# Altium schematic symbol library Sajad_Altium_Library.SchLib: 340 symbols (part 2 of 4)
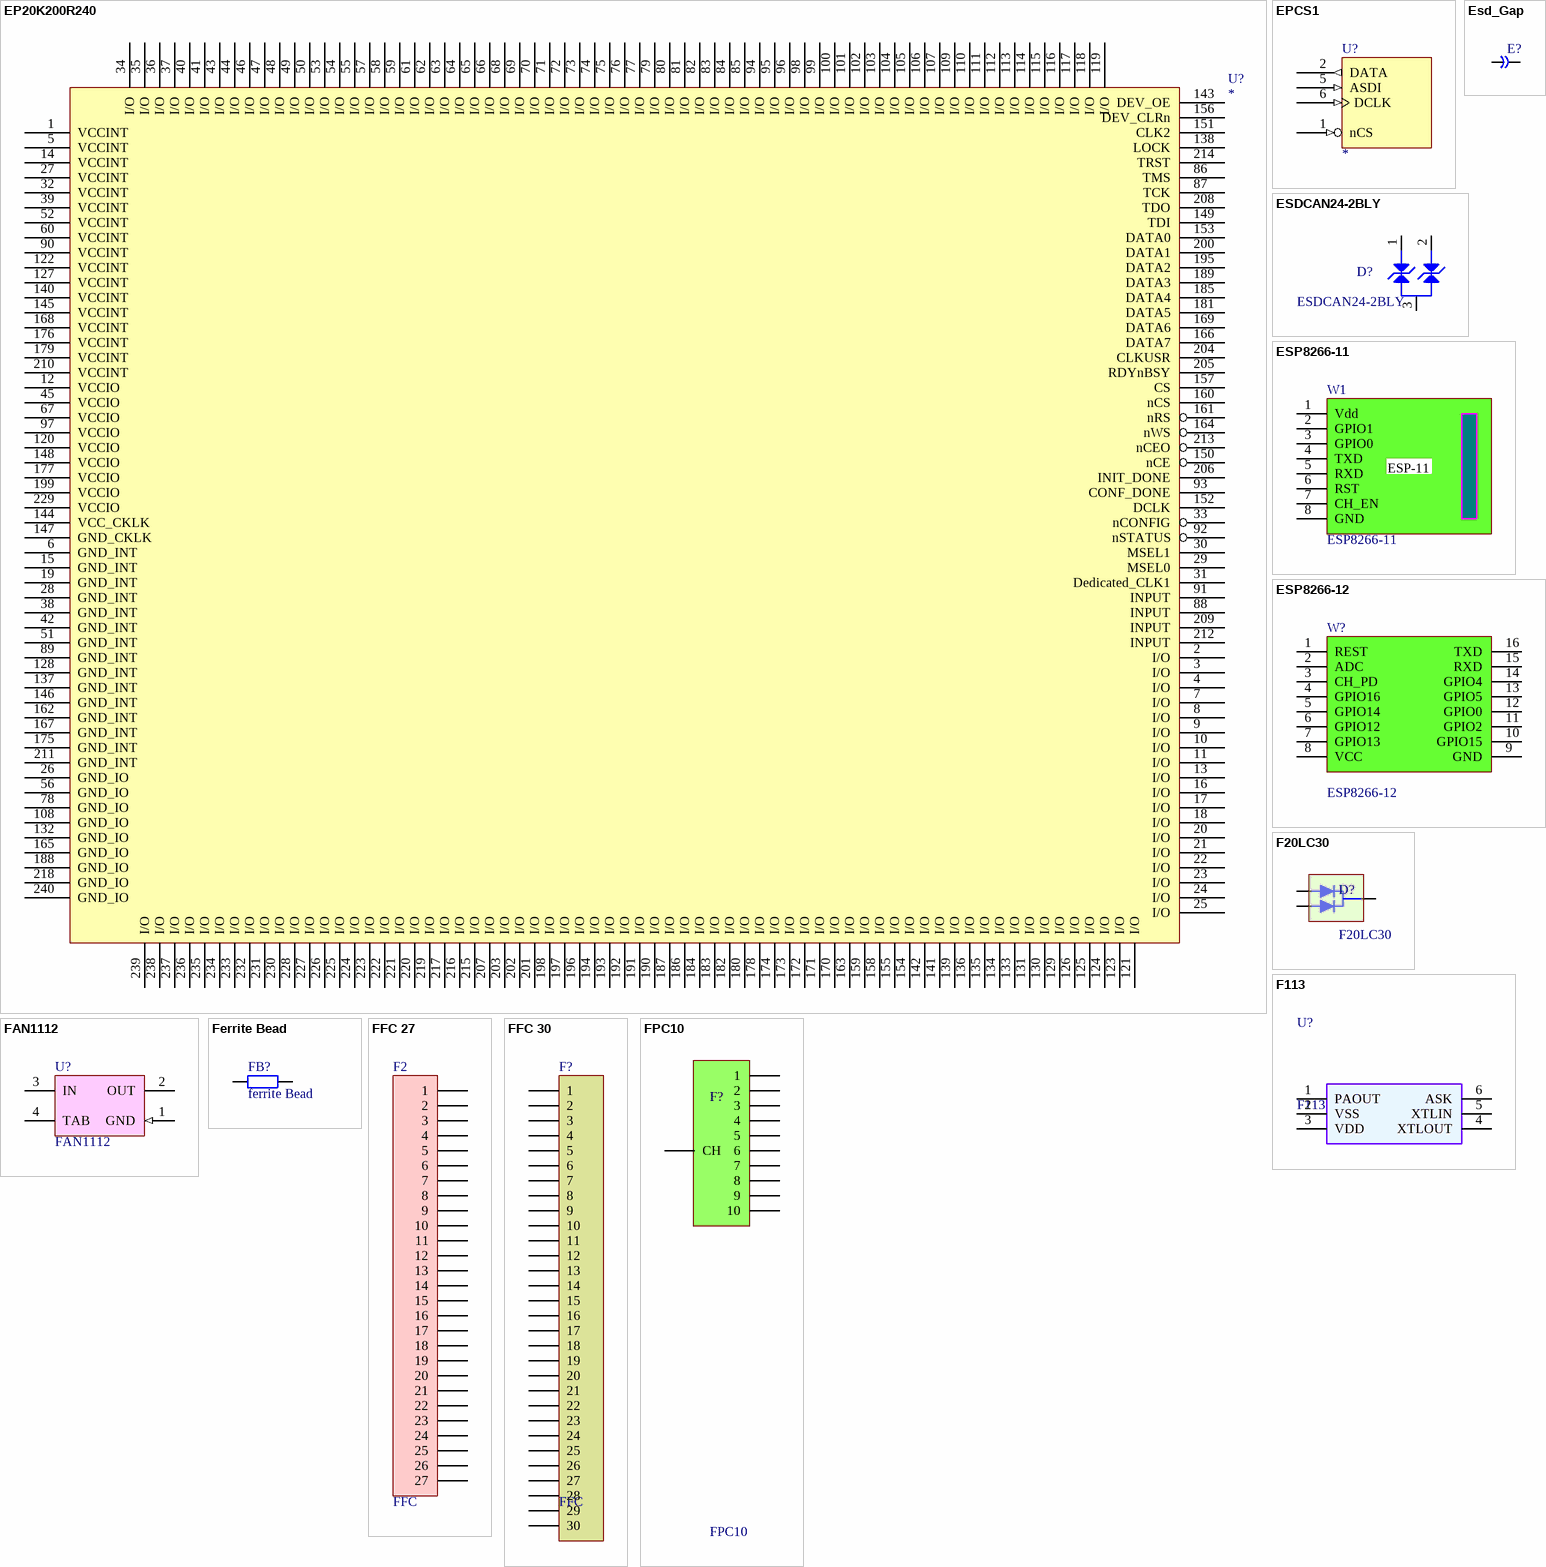
[diagram p18: symbols EP20K200R240 to FPC10]

## EP20K200R240
designator U?
Apex20K200 240-pin RQFP
footprint RQFP240
pins: 1 VCCINT, 2 I/O, 3 I/O, 4 I/O, 5 VCCINT, 6 GND_INT, 7 I/O, 8 I/O, 9 I/O, 10 I/O, 11 I/O, 12 VCCIO, 13 I/O, 14 VCCINT, 15 GND_INT, 16 I/O, 17 I/O, 18 I/O, 19 GND_INT, 20 I/O, 21 I/O, 22 I/O, 23 I/O, 24 I/O, 25 I/O, 26 GND_IO, 27 VCCINT, 28 GND_INT, 29 MSEL0, 30 MSEL1, 31 Dedicated_CLK1, 32 VCCINT, 33 nCONFIG, 34 I/O, 35 I/O, 36 I/O, 37 I/O, 38 GND_INT, 39 VCCINT, 40 I/O, 41 I/O, 42 GND_INT, 43 I/O, 44 I/O, 45 VCCIO, 46 I/O, 47 I/O, 48 I/O, 49 I/O, 50 I/O, 51 GND_INT, 52 VCCINT, 53 I/O, 54 I/O, 55 I/O, 56 GND_IO, 57 I/O, 58 I/O, 59 I/O, 60 VCCINT, 61 I/O, 62 I/O, 63 I/O, 64 I/O, 65 I/O, 66 I/O, 67 VCCIO, 68 I/O, 69 I/O, 70 I/O, 71 I/O, 72 I/O, 73 I/O, 74 I/O, 75 I/O, 76 I/O, 77 I/O, 78 GND_IO, 79 I/O, 80 I/O, 81 I/O, 82 I/O, 83 I/O, 84 I/O, 85 I/O, 86 TMS, 87 TCK, 88 INPUT, 89 GND_INT, 90 VCCINT, 91 INPUT, 92 nSTATUS, 93 CONF_DONE, 94 I/O, 95 I/O, 96 I/O, 97 VCCIO, 98 I/O, 99 I/O, 100 I/O, 101 I/O, 102 I/O, 103 I/O, 104 I/O, 105 I/O, 106 I/O, 107 I/O, 108 GND_IO, 109 I/O, 110 I/O, 111 I/O, 112 I/O, 113 I/O, 114 I/O, 115 I/O, 116 I/O, 117 I/O, 118 I/O, 119 I/O, 120 VCCIO, 121 I/O, 122 VCCINT, 123 I/O, 124 I/O, 125 I/O, 126 I/O, 127 VCCINT, 128 GND_INT, 129 I/O, 130 I/O, 131 I/O, 132 GND_IO, 133 I/O, 134 I/O, 135 I/O, 136 I/O, 137 GND_INT, 138 LOCK, 139 I/O, 140 VCCINT, 141 I/O, 142 I/O, 143 DEV_OE, 144 VCC_CKLK, 145 VCCINT, 146 GND_INT, 147 GND_CKLK, 148 VCCIO, 149 TDI, 150 nCE, 151 CLK2, 152 DCLK, 153 DATA0, 154 I/O, 155 I/O, 156 DEV_CLRn, 157 CS, 158 I/O, 159 I/O, 160 nCS, 161 nRS, 162 GND_INT, 163 I/O, 164 nWS, 165 GND_IO, 166 DATA7, 167 GND_INT, 168 VCCINT, 169 DATA6, 170 I/O, 171 I/O, 172 I/O, 173 I/O, 174 I/O, 175 GND_INT, 176 VCCINT, 177 VCCIO, 178 I/O, 179 VCCINT, 180 I/O, 181 DATA5, 182 I/O, 183 I/O, 184 I/O, 185 DATA4, 186 I/O, 187 I/O, 188 GND_IO, 189 DATA3, 190 I/O, 191 I/O, 192 I/O, 193 I/O, 194 I/O, 195 DATA2, 196 I/O, 197 I/O, 198 I/O, 199 VCCIO, 200 DATA1, 201 I/O, 202 I/O, 203 I/O, 204 CLKUSR, 205 RDYnBSY, 206 INIT_DONE, 207 I/O, 208 TDO, 209 INPUT, 210 VCCINT, 211 GND_INT, 212 INPUT, 213 nCEO, 214 TRST, 215 I/O, 216 I/O, 217 I/O, 218 GND_IO, 219 I/O, 220 I/O, 221 I/O, 222 I/O, 223 I/O, 224 I/O, 225 I/O, 226 I/O, 227 I/O, 228 I/O, 229 VCCIO, 230 I/O, 231 I/O, 232 I/O, 233 I/O, 234 I/O, 235 I/O, 236 I/O, 237 I/O, 238 I/O, 239 I/O, 240 GND_IO

## EPCS1
designator U?
Altera Serial Configuration Device
footprint SO-8
footprint SO-16
pins: 1 nCS (in), 2 DATA (out), 3 Vcc (power) hidden to Vcc, 4 GND (power) hidden to GND, 5 ASDI (in), 6 DCLK (in), 7 Vcc (power) hidden to Vcc, 8 Vcc (power) hidden to Vcc

## Esd_Gap
designator E?, comment Esd Gap  (value not drawn)
EsdGap; Published: 8-Jun-2000; LatestRevisionDate: 17-Jul-2002; LatestRevisionNote: Re-released for DXP Platform.; PackageReference: AXIAL-0.3; Publisher: Altium Limited
footprint Esd Gap (Esp Gap)
pins: 1, 2

## ESDCAN24-2BLY
designator D?
footprint SOT-23
footprint SOT23-213 (Footprint not found)
pins: 1, 2, 3

## ESP8266-11
designator W1
ESP8266 serial WIFI model ESP-11
footprint ESP8266-11
pins: 1 Vdd, 2 GPIO1, 3 GPIO0, 4 TXD, 5 RXD, 6 RST, 7 CH_EN, 8 GND
2 alternate drawings of the same symbol
text: ESP-11

## ESP8266-12
designator W?
ESP8266 serial WIFI model ESP-12
pins: 1 REST, 2 ADC, 3 CH_PD, 4 GPIO16, 5 GPIO14, 6 GPIO12, 7 GPIO13, 8 VCC, 9 GND, 10 GPIO15, 11 GPIO2, 12 GPIO0, 13 GPIO5, 14 GPIO4, 15 RXD, 16 TXD
2 alternate drawings of the same symbol

## F20LC30
designator D?
Supter fast Recovery Rectifier 300v 20A
footprint TO220
pins: 1 A1, 2 K, 3 A2

## F113
designator U?
F113_syn113 300-450mhz Ask Transmitter Chip_rf Ic
footprint PG-TSOP6 (High Precision Hall-Effect Switch with   Direction Detection)
pins: 1 PAOUT "Speed", 2 VSS, 3 VDD "Direction", 4 XTLOUT "Supply voltage", 5 XTLIN, 6 ASK

## FAN1112
designator U?
1A 1.2V Low Dropout Linear Regulator; PartNumber: LM317EMP; Manufacturer: National Semiconductor; CompType: LDO IC; PackageTopMarking: XYTT*N01A; PowerWise: N; Published: 4-Dec-2008; DatasheetVersion: Apr-2007; PackageVersion: revB, Apr-2003; PackageReference: MP04A; Publisher: Altium Limited; PackageDescription: Molded SOT-223, 6.50 x 3.56 x 1.6mm Body, 4 Lead, 2.3mm Pitch; RoHS: O; PinCount: 4; DigiKeyPartNumber: LM317EMPCT-ND; Code_JEDEC: TO-261-AA; Code_IPC: SOT223-4; ComponentLink1Description: LM317 Datasheet; ComponentLink1URL: http://www.national.com/ds/LM/LM317.pdf; ComponentLink2Description: LM317 Web Page; ComponentLink2URL: http://www.national.com/pf/LM/LM317.html; ComponentLink3Description: MP04A Package Page; ComponentLink3URL: http://www.national.com/packaging/folders/mp04a.html
footprint SOT223
pins: 1 GND (in), 2 OUT (power), 3 IN (power), 4 TAB (power)

## Ferrite Bead
designator FB?, comment ferrite Bead
Resistor; Published: 8-Jun-2000; LatestRevisionDate: 17-Jul-2002; LatestRevisionNote: Re-released for DXP Platform.; PackageReference: AXIAL-0.4; Publisher: Altium Limited; PackageDescription: Axial Device, Thru-Hole; 2 Leads; 0.4 in Pin Spacing
footprint AXIAL-0.4 - ferrite bead (Axial Device, Thru-Hole; 2 Leads; 0.4 in Pin Spacing)
pins: 1, 2

## FFC 27
designator F2, comment FFC
FFC connector 27pin
footprint ffc Connector 27
pins: 1, 2, 3, 4, 5, 6, 7, 8, 9, 10, 11, 12, 13, 14, 15, 16, 17, 18, 19, 20, 21, 22, 23, 24, 25, 26, 27

## FFC 30
designator F?, comment FFC
FFC connector 30 pin
footprint ffc Connector 30
pins: 1, 2, 3, 4, 5, 6, 7, 8, 9, 10, 11, 12, 13, 14, 15, 16, 17, 18, 19, 20, 21, 22, 23, 24, 25, 26, 27, 28, 29, 30

## FPC10
designator F?
FPC 10 smd
footprint FPC 10Pin (Chess Connector)
pins: 1, 2, 3, 4, 5, 6, 7, 8, 9, 10, CH

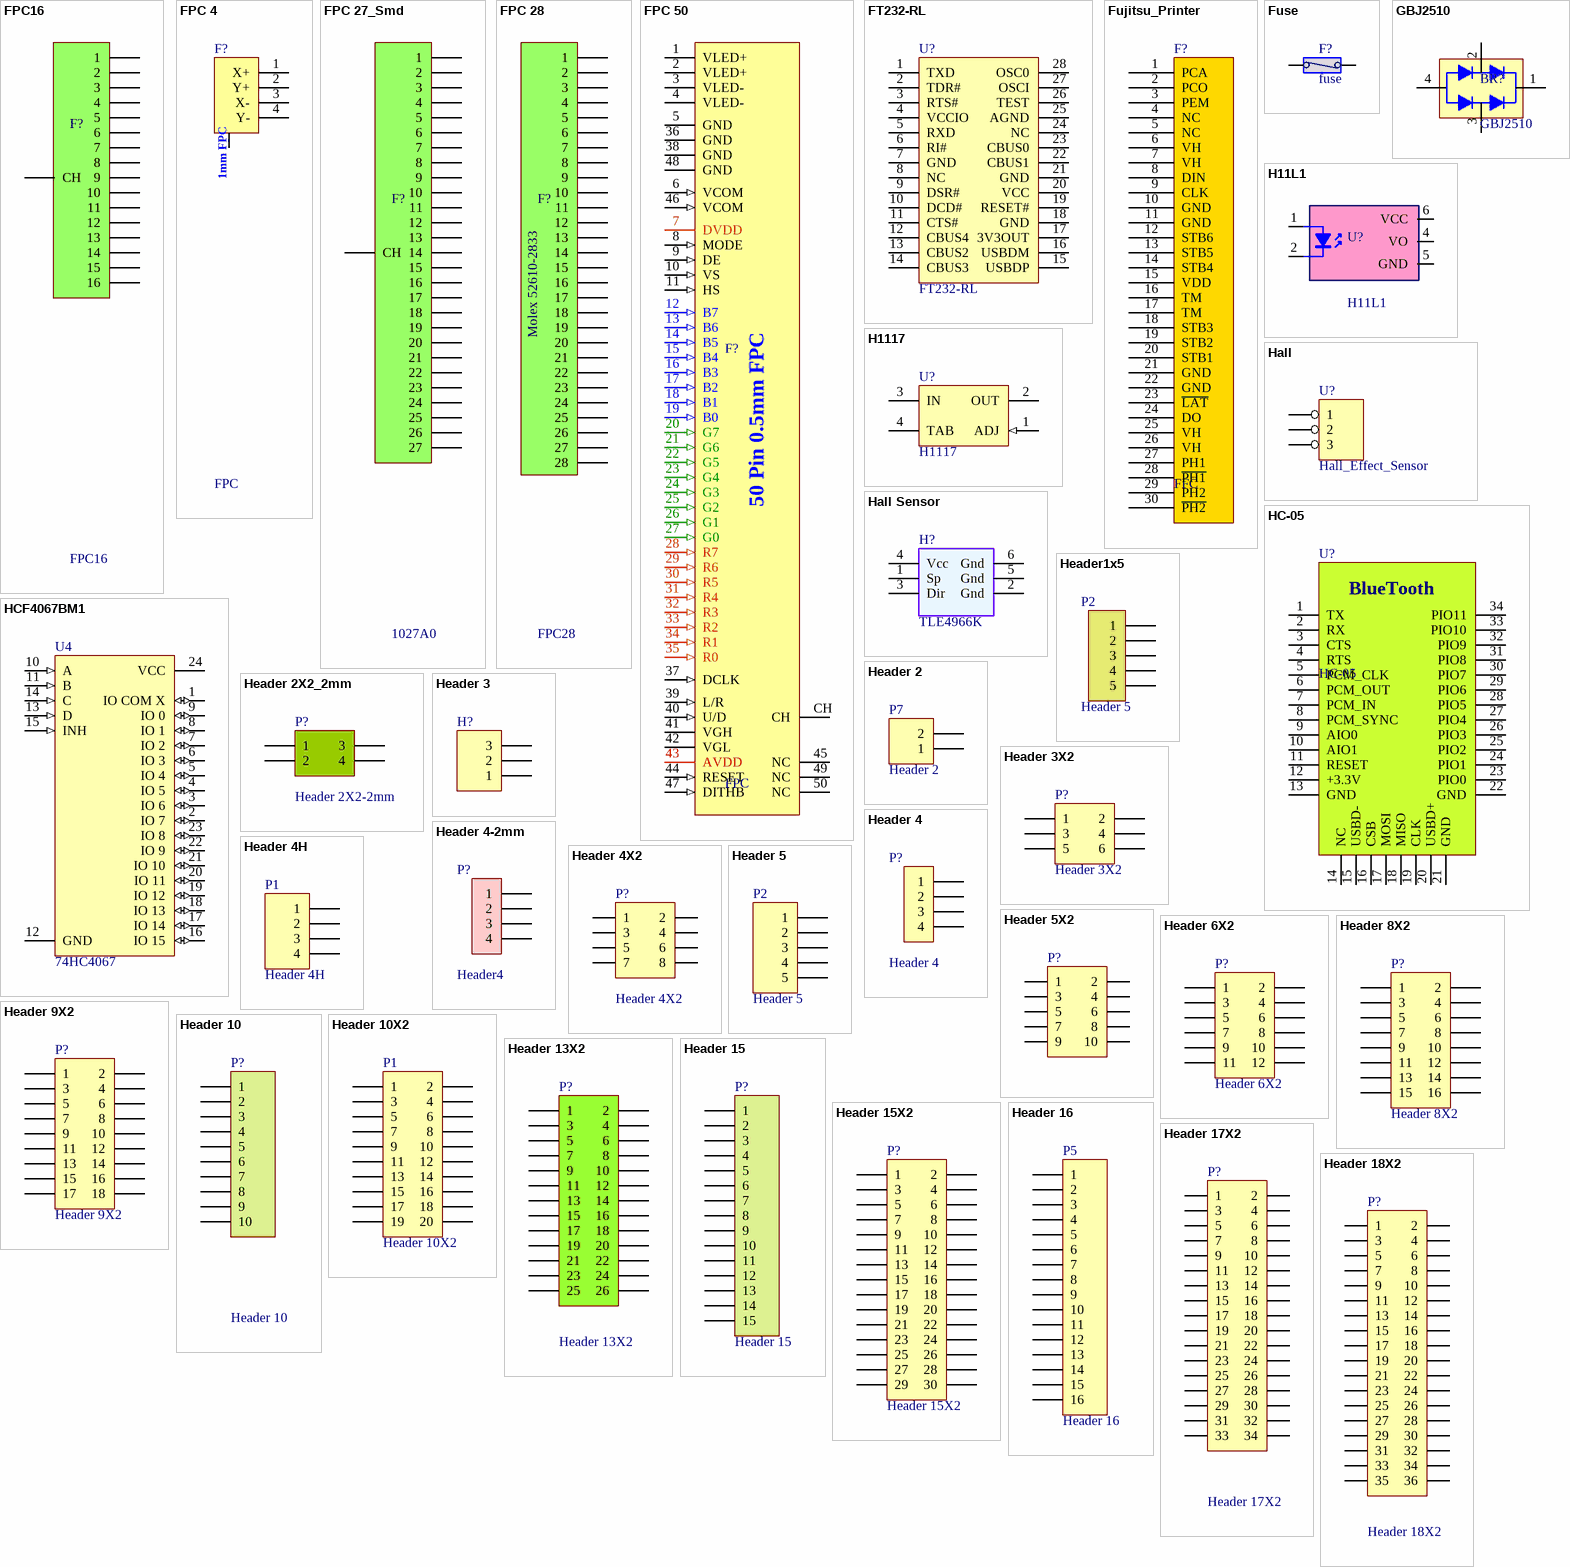
[diagram p7: symbols FPC16 to Header 18X2]

## FPC16
designator F?
FPC connector 16pin smd
footprint FPC 16pin 1mm (Chess Connector)
pins: 1, 2, 3, 4, 5, 6, 7, 8, 9, 10, 11, 12, 13, 14, 15, 16, CH

## FPC 4
designator F?, comment FPC
FPC 4 Pin 1mm
footprint FPC 4pin 1mm (Touch Connector)
pins: 1 X+, 2 Y+, 3 X-, 4 Y-, CH
text: 1mm FPC

## FPC 27_Smd
designator F?, comment 1027A0
FPC connector 27pin smd with Lock
footprint FPC 27pin 1mm (1027-A0 FPC1.0)
pins: 1, 2, 3, 4, 5, 6, 7, 8, 9, 10, 11, 12, 13, 14, 15, 16, 17, 18, 19, 20, 21, 22, 23, 24, 25, 26, 27, CH

## FPC 28
designator F?, comment FPC28
1.00mm Pitch Easy-On™ Type FFC/FPC Connector, Surface Mount, Vertical, ZIF Receptacle, 28 Circuits; Part Number: 52610-2833; Link: http://www.molex.com/molex/products/datasheet.jsp?part=active/0526102833_FFC_FPC_CONNECTORS.xml
footprint ffc Connector 28 (Molex Part Number: 52610-0533)
pins: 1, 2, 3, 4, 5, 6, 7, 8, 9, 10, 11, 12, 13, 14, 15, 16, 17, 18, 19, 20, 21, 22, 23, 24, 25, 26, 27, 28
text: Molex 52610-2833

## FPC 50
designator F?, comment FPC
FPC connector 50 pin
footprint FPC 50pin 0.5 mm (FPC 50pin .5 mm)
pins: 1 VLED+ (power), 2 VLED+ (power), 3 VLED- (power), 4 VLED- (power), 5 GND (power), 6 VCOM (in), 7 DVDD, 8 MODE  (in), 9 DE (in), 10 VS (in), 11 HS (in), 12 B7 (in), 13 B6 (in), 14 B5 (in), 15 B4 (in), 16 B3 (in), 17 B2 (in), 18 B1 (in), 19 B0 (in), 20 G7 (in), 21 G6 (in), 22 G5 (in), 23 G4 (in), 24 G3 (in), 25 G2 (in), 26 G1 (in), 27 G0 (in), 28 R7 (in), 29 R6 (in), 30 R5 (in), 31 R4 (in), 32 R3 (in), 33 R2 (in), 34 R1 (in), 35 R0 (in), 36 GND, 37 DCLK (in), 38 GND, 39 L/R (in), 40 U/D  (in), 41 VGH, 42 VGL, 43 AVDD, 44 RESET (in), 45 NC, 46 VCOM (in), 47 DITHB (in), 48 GND, 49 NC, 50 NC, CH
text: 50 Pin 0.5mm FPC

## FT232-RL
designator U?
footprint SSOP-28
pins: 1 TXD, 2 TDR#, 3 RTS#, 4 VCCIO, 5 RXD, 6 RI#, 7 GND, 8 NC, 9 DSR#, 10 DCD#, 11 CTS#, 12 CBUS4, 13 CBUS2, 14 CBUS3, 15 USBDP, 16 USBDM, 17 3V3OUT, 18 GND, 19 RESET#, 20 VCC, 21 GND, 22 CBUS1, 23 CBUS0, 24 NC, 25 AGND, 26 TEST, 27 OSCI, 28 OSC0

## Fujitsu_Printer
designator F?, comment FFC
FFC connector 30 pin
footprint ffc Connector 30
pins: 1 PCA, 2 PCO, 3 PEM, 4 NC, 5 NC, 6 VH, 7 VH, 8 DIN, 9 CLK, 10 GND, 11 GND, 12 STB6, 13 STB5, 14 STB4, 15 VDD, 16 TM, 17 TM, 18 STB3, 19 STB2, 20 STB1, 21 GND, 22 GND, 23 ~{LAT}, 24 DO, 25 VH, 26 VH, 27 PH1, 28 ~{PH1}, 29 PH2, 30 ~{PH2}

## Fuse
designator F?, comment fuse
footprint fuse
pins: 1, 2

## GBJ2510
designator BR?
25A GLASS PASSIVATED BRIDGE RECTIFIER
footprint Bridge_KBP204 (KBP204 Diode Bridge)
pins: 1, 2, 3, 4

## H11L1
designator U?
6  PIN DIP   S  CHMITT TRIGGER  P  H  OTOCOUPLE  R
footprint DIP6 (DIP; 6 Leads; Row Spacing 7.62 mm; Pitch 2.54 mm)
pins: 1 A "Anode", 2 K "Cathode", 4 VO "Collector", 5 GND "Emitter", 6 VCC "Emitter"

## H1117
designator U?
3.3 Volt Regulator; PartNumber: LM317EMP; Manufacturer: National Semiconductor; CompType: LDO IC; PackageTopMarking: XYTT*N01A; PowerWise: N; Published: 4-Dec-2008; DatasheetVersion: Apr-2007; PackageVersion: revB, Apr-2003; PackageReference: MP04A; Publisher: Altium Limited; PackageDescription: Molded SOT-223, 6.50 x 3.56 x 1.6mm Body, 4 Lead, 2.3mm Pitch; RoHS: O; PinCount: 4; DigiKeyPartNumber: LM317EMPCT-ND; Code_JEDEC: TO-261-AA; Code_IPC: SOT223-4; ComponentLink1Description: LM317 Datasheet; ComponentLink1URL: http://www.national.com/ds/LM/LM317.pdf; ComponentLink2Description: LM317 Web Page; ComponentLink2URL: http://www.national.com/pf/LM/LM317.html; ComponentLink3Description: MP04A Package Page; ComponentLink3URL: http://www.national.com/packaging/folders/mp04a.html
footprint SOT223
pins: 1 ADJ (in), 2 OUT (power), 3 IN (power), 4 TAB (power)

## Hall
designator U?, comment Hall_Effect_Sensor
footprint HALL_EFFECT_SENSOR
pins: 1, 2, 3

## Hall Sensor
designator H?, comment TLE4966K
High Precision Hall-Effect Switch with   Direction Detection
footprint PG-TSOP6 (High Precision Hall-Effect Switch with   Direction Detection)
pins: 1 Sp "Speed", 2 Gnd, 3 Dir "Direction", 4 Vcc "Supply voltage", 5 Gnd, 6 Gnd

## HC-05
designator U?
HC-05 Embedded Bluetooth Serial Module; Link: http://javanelec.com/productsDetails.aspx?id=23721; Price: 19000 Toman
footprint HC-05 (Bluetooth module footprint)
pins: 1 TX, 2 RX, 3 CTS, 4 RTS, 5 PCM_CLK, 6 PCM_OUT, 7 PCM_IN, 8 PCM_SYNC, 9 AIO0, 10 AIO1, 11 RESET, 12 +3.3V, 13 GND, 14 NC, 15 USBD-, 16 CSB, 17 MOSI, 18 MISO, 19 CLK, 20 USBD+, 21 GND, 22 GND, 23 PIO0, 24 PIO1, 25 PIO2, 26 PIO3, 27 PIO4, 28 PIO5, 29 PIO6, 30 PIO7, 31 PIO8, 32 PIO9, 33 PIO10, 34 PIO11
text: BlueTooth

## HCF4067BM1
designator U4, comment 74HC4067
Analog Multiplexer/Demultiplexer; Published: 8-Jun-2000; LatestRevisionDate: 13-Apr-2006; LatestRevisionNote: IPC-7351 Footprint Added.; DatasheetVersion: Sep-1988; PackageVersion: Oct-2001; PackageReference: SO24; Publisher: Altium Limited; PackageDescription: 24-Pin Plastic Small Outline Integrated Circuit 1.27 mm Pitch; ComponentLink1Description: Manufacturer Link; ComponentLink1URL: http://www.st.com/; ComponentLink2Description: Datasheet; ComponentLink2URL: http://www.st.com/stonline/products/literature/ds/2058/hcf4067.pdf
footprint SO24_N (SOIC, 24-Leads, Body 15.4x7.5mm, Pitch 1.27mm, IPC Medium Density)
footprint SO24_L (SOIC, 24-Leads, Body 15.4x7.5mm, Pitch 1.27mm, IPC High Density)
footprint SO24_M (SOIC, 24-Leads, Body 15.4x7.5mm, Pitch 1.27mm, IPC Low Density)
pins: 1 IO COM X (io), 2 IO 7 (io), 3 IO 6 (io), 4 IO 5 (io), 5 IO 4 (io), 6 IO 3 (io), 7 IO 2 (io), 8 IO 1 (io), 9 IO 0 (io), 10 A (in), 11 B (in), 12 GND (power), 13 D (in), 14 C (in), 15 INH (in), 16 IO 15 (io), 17 IO 14 (io), 18 IO 13 (io), 19 IO 12 (io), 20 IO 11 (io), 21 IO 10 (io), 22 IO 9 (io), 23 IO 8 (io), 24 VCC (power)

## Header1x5
designator P2, comment Header 5
Heder 1x5; LatestRevisionDate: 17-Jul-2002; LatestRevisionNote: Re-released for DXP Platform.; Publisher: Altium Limited
footprint Header1x5 (Header; 5 Position)
pins: 1, 2, 3, 4, 5

## Header 2
designator P7
Header, 2-Pin; LatestRevisionDate: 17-Jul-2002; LatestRevisionNote: Re-released for DXP Platform.; Publisher: Altium Limited
footprint HDR1X2 (Connector; Header; 2 Position)
pins: 1, 2

## Header 2X2_2mm
designator P?, comment Header 2X2-2mm
Header, 4-Pin, Dual row; LatestRevisionDate: 17-Jul-2002; LatestRevisionNote: Re-released for DXP Platform.; Publisher: Altium Limited
footprint Header2x2 -2mm (Header; 4 Position)
pins: 1, 2, 3, 4

## Header 3
designator H?  (value not drawn)
Header, 3-Pin; LatestRevisionDate: 17-Jul-2002; LatestRevisionNote: Re-released for DXP Platform.; Publisher: Altium Limited
footprint HDR1X3 (Connector; Header; 3 Position)
signal-integrity model Connector
pins: 1, 2, 3

## Header 3X2
designator P?
Header, 3-Pin, Dual row; LatestRevisionDate: 17-Jul-2002; LatestRevisionNote: Re-released for DXP Platform.; Publisher: Altium Limited
footprint HDR2X3 (Connector; Header; 3x2 Position)
pins: 1, 2, 3, 4, 5, 6

## Header 4
designator P?
Header, 4-Pin; LatestRevisionDate: 17-Jul-2002; LatestRevisionNote: Re-released for DXP Platform.; Publisher: Altium Limited
footprint Header1x4 (Header; 4 Position)
pins: 1, 2, 3, 4

## Header 4-2mm
designator P?, comment Header4
Header, 4-Pin 2mm; LatestRevisionDate: 17-Jul-2002; LatestRevisionNote: Re-released for DXP Platform.; Publisher: Altium Limited
footprint Header1x4 -2mm (Header; 4 Position)
pins: 1, 2, 3, 4

## Header 4H
designator P1
Header, 4-Pin, Right Angle; LatestRevisionDate: 17-Jul-2002; LatestRevisionNote: Re-released for DXP Platform.; Publisher: Altium Limited
footprint HDR1X4
pins: 1, 2, 3, 4

## Header 4X2
designator P?
Header, 4-Pin, Dual row; LatestRevisionDate: 17-Jul-2002; LatestRevisionNote: Re-released for DXP Platform.; Publisher: Altium Limited
footprint Header2x4
footprint Header2x4Big
pins: 1, 2, 3, 4, 5, 6, 7, 8

## Header 5
designator P2
Header, 5-Pin; LatestRevisionDate: 17-Jul-2002; LatestRevisionNote: Re-released for DXP Platform.; Publisher: Altium Limited
footprint Header1x5 (Header; 5 Position)
signal-integrity model Connector
pins: 1, 2, 3, 4, 5

## Header 5X2
designator P?
Header, 5-Pin, Dual row; LatestRevisionDate: 17-Jul-2002; LatestRevisionNote: Re-released for DXP Platform.; Publisher: Altium Limited
footprint Header2x5
pins: 1, 2, 3, 4, 5, 6, 7, 8, 9, 10

## Header 6X2
designator P?
Header, 6-Pin, Dual row; LatestRevisionDate: 17-Jul-2002; LatestRevisionNote: Re-released for DXP Platform.; Publisher: Altium Limited
footprint HDR2X6 (Connector; Header; 6x2 Position)
pins: 1, 2, 3, 4, 5, 6, 7, 8, 9, 10, 11, 12

## Header 8X2
designator P?
Header, 8-Pin, Dual row; LatestRevisionDate: 17-Jul-2002; LatestRevisionNote: Re-released for DXP Platform.; Publisher: Altium Limited
footprint IDC2.54-V16D (Connector; IDC, Low Profile Male Header, Thru-Hole; 16 Position; Vertical; Pitch 2.54 mm; Body 27.94 x 9.2 x 9.45 mm (LxWxH))
footprint IDC2.54-V16D_Lock (Connector; IDC, Low Profile Male Header, Thru-Hole; 16 Position; Vertical; Pitch 2.54 mm; Body 27.94 x 9.2 x 9.45 mm (LxWxH))
pins: 1, 2, 3, 4, 5, 6, 7, 8, 9, 10, 11, 12, 13, 14, 15, 16

## Header 9X2
designator P?
Header, 9-Pin, Dual row; LatestRevisionDate: 17-Jul-2002; LatestRevisionNote: Re-released for DXP Platform.; Publisher: Altium Limited
footprint HDR2X9 (Connector; Header; 9x2 Position)
signal-integrity model Connector
pins: 1, 2, 3, 4, 5, 6, 7, 8, 9, 10, 11, 12, 13, 14, 15, 16, 17, 18

## Header 10
designator P?
Header, 10-Pin; LatestRevisionDate: 17-Jul-2002; LatestRevisionNote: Re-released for DXP Platform.; Publisher: Altium Limited
footprint HDR 1X10 (Connector; Header; 10 Position)
pins: 1, 2, 3, 4, 5, 6, 7, 8, 9, 10

## Header 10X2
designator P1
Header, 10-Pin, Dual row; LatestRevisionDate: 17-Jul-2002; LatestRevisionNote: Re-released for DXP Platform.; Publisher: Altium Limited
footprint HDR2X10 (Connector; Header; 10x2 Position)
footprint IDC2.54-H20C (Connector; IDC, Low Profile Male Header, Thru-Hole; 20 Position; Right Angle; Pitch 2.54 mm; Body 33.02 x 8.9 x 9.2 mm (LxWxH))
footprint IDC2.54-V20D (Connector; IDC, Low Profile Male Header, Thru-Hole; 20 Position; Vertical; Pitch 2.54 mm; Body 33.02 x 9.2 x 9.45 mm (LxWxH))
footprint IDC2.54-V20D_Lock (Connector; IDC, Low Profile Male Header, Thru-Hole; 20 Position; Vertical; Pitch 2.54 mm; Body 33.02 x 9.2 x 9.45 mm (LxWxH))
pins: 1, 2, 3, 4, 5, 6, 7, 8, 9, 10, 11, 12, 13, 14, 15, 16, 17, 18, 19, 20

## Header 13X2
designator P?
Header, 13-Pin, Dual row
footprint IDC2.54-V26D
pins: 1, 2, 3, 4, 5, 6, 7, 8, 9, 10, 11, 12, 13, 14, 15, 16, 17, 18, 19, 20, 21, 22, 23, 24, 25, 26

## Header 15
designator P?
Header, 15-Pin; LatestRevisionDate: 17-Jul-2002; LatestRevisionNote: Re-released for DXP Platform.; Publisher: Altium Limited
footprint HDR_1X15 (Connector; Header; 15 Position)
pins: 1, 2, 3, 4, 5, 6, 7, 8, 9, 10, 11, 12, 13, 14, 15

## Header 15X2
designator P?
Header, 15-Pin, Dual row; LatestRevisionDate: 17-Jul-2002; LatestRevisionNote: Re-released for DXP Platform.; Publisher: Altium Limited
footprint IDC2.54-V30D
pins: 1, 2, 3, 4, 5, 6, 7, 8, 9, 10, 11, 12, 13, 14, 15, 16, 17, 18, 19, 20, 21, 22, 23, 24, 25, 26, 27, 28, 29, 30

## Header 16
designator P5
Header, 16-Pin; LatestRevisionDate: 17-Jul-2002; LatestRevisionNote: Re-released for DXP Platform.; Publisher: Altium Limited
footprint HDR_1X16 (Connector; Header; 16 Position)
pins: 1, 2, 3, 4, 5, 6, 7, 8, 9, 10, 11, 12, 13, 14, 15, 16

## Header 17X2
designator P?
Header, 17-Pin, Dual row; LatestRevisionDate: 17-Jul-2002; LatestRevisionNote: Re-released for DXP Platform.; Publisher: Altium Limited
footprint IDC2.54-V34D (Connector; IDC, Low Profile Male Header, Thru-Hole; 34 Position; Vertical; Pitch 2.54 mm; Body 50.80 x 9.2 x 9.45 mm (LxWxH))
footprint 3_2InchTft
pins: 1, 2, 3, 4, 5, 6, 7, 8, 9, 10, 11, 12, 13, 14, 15, 16, 17, 18, 19, 20, 21, 22, 23, 24, 25, 26, 27, 28, 29, 30, 31, 32, 33, 34

## Header 18X2
designator P?
Header, 18-Pin, Dual row; LatestRevisionDate: 17-Jul-2002; LatestRevisionNote: Re-released for DXP Platform.; Publisher: Altium Limited
footprint IDC2.54-V36D (Connector; IDC, Low Profile Male Header, Thru-Hole; 40 Position; Vertical; Pitch 2.54 mm;)
pins: 1, 2, 3, 4, 5, 6, 7, 8, 9, 10, 11, 12, 13, 14, 15, 16, 17, 18, 19, 20, 21, 22, 23, 24, 25, 26, 27, 28, 29, 30, 31, 32, 33, 34, 35, 36

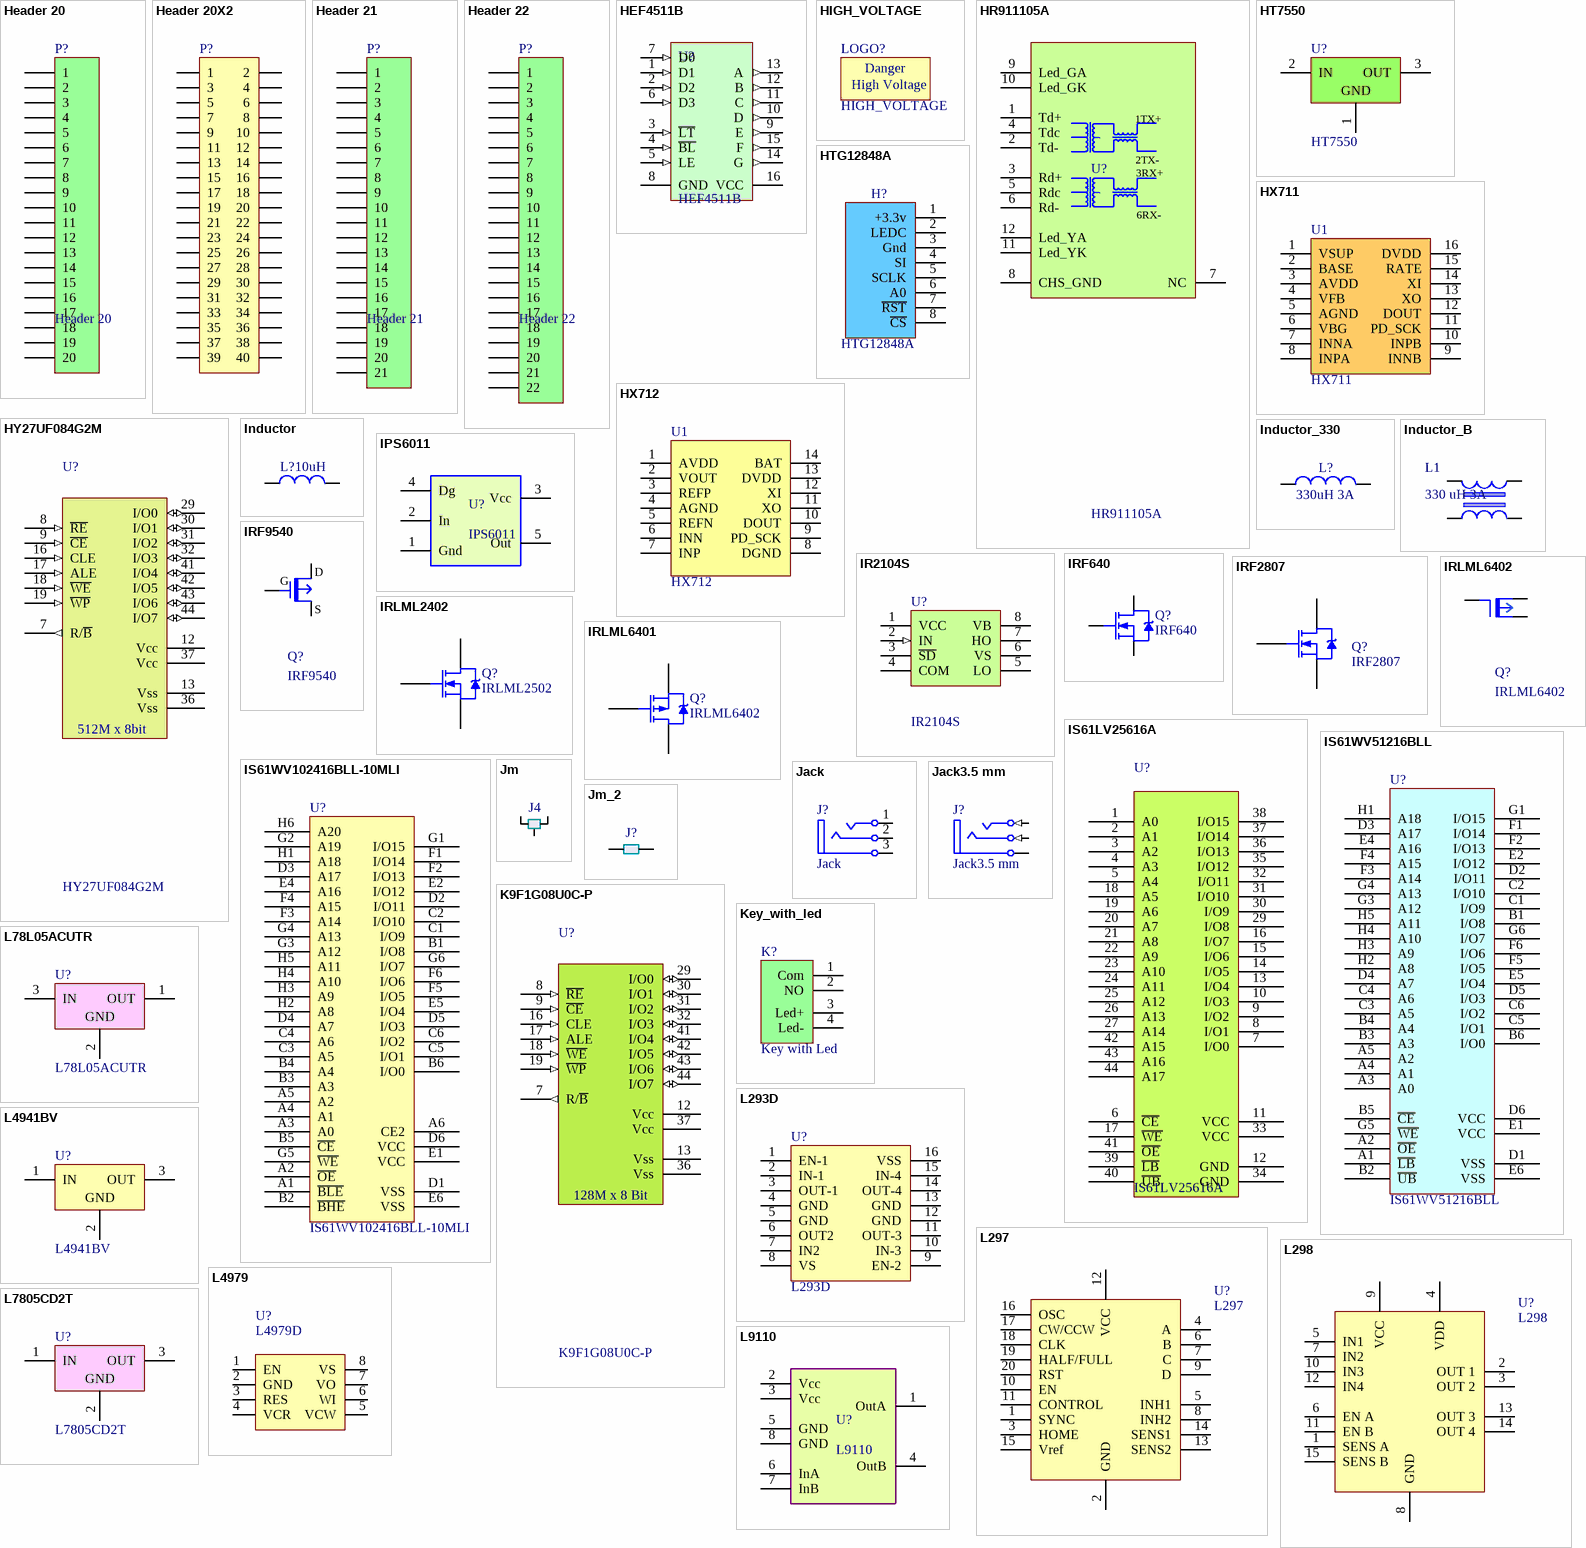
[diagram p8: symbols Header 20 to L9110]

## Header 20
designator P?
Header, 20-Pin; LatestRevisionDate: 17-Jul-2002; LatestRevisionNote: Re-released for DXP Platform.; Publisher: Altium Limited
footprint HDR_1X20 (Connector; Header; 20 Position)
pins: 1, 2, 3, 4, 5, 6, 7, 8, 9, 10, 11, 12, 13, 14, 15, 16, 17, 18, 19, 20

## Header 20X2
designator P?
Header, 20-Pin, Dual row; LatestRevisionDate: 17-Jul-2002; LatestRevisionNote: Re-released for DXP Platform.; Publisher: Altium Limited
footprint Header2x20
footprint IDC2.54-V40D (Connector; IDC, Low Profile Male Header, Thru-Hole; 40 Position; Vertical; Pitch 2.54 mm; Body 58.42 x 9.2 x 9.45 mm (LxWxH))
pins: 1, 2, 3, 4, 5, 6, 7, 8, 9, 10, 11, 12, 13, 14, 15, 16, 17, 18, 19, 20, 21, 22, 23, 24, 25, 26, 27, 28, 29, 30, 31, 32, 33, 34, 35, 36, 37, 38, 39, 40

## Header 21
designator P?
Header, 21-Pin; LatestRevisionDate: 17-Jul-2002; LatestRevisionNote: Re-released for DXP Platform.; Publisher: Altium Limited
footprint HDR_1X21 (Connector; Header; 21 Position)
pins: 1, 2, 3, 4, 5, 6, 7, 8, 9, 10, 11, 12, 13, 14, 15, 16, 17, 18, 19, 20, 21

## Header 22
designator P?
Header, 22-Pin; LatestRevisionDate: 17-Jul-2002; LatestRevisionNote: Re-released for DXP Platform.; Publisher: Altium Limited
footprint HDR_1X22 (Connector; Header; 22 Position)
pins: 1, 2, 3, 4, 5, 6, 7, 8, 9, 10, 11, 12, 13, 14, 15, 16, 17, 18, 19, 20, 21, 22

## HEF4511B
designator U?
BCD to 7-segment latch/decoder/driver
footprint SO16
pins: 1 D1 (in), 2 D2 (in), 3 ~{LT} (in), 4 ~{BL} (in), 5 LE (in), 6 D3 (in), 7 D0 (in), 8 GND (power), 9 E (out), 10 D (out), 11 C (out), 12 B (out), 13 A (out), 14 G (out), 15 F (out), 16 VCC

## HIGH_VOLTAGE
designator LOGO?
footprint HIGH VOLTAGE
text: Danger; High Voltage

## HR911105A
designator U?
Rj45 Connector with Filter & LED
footprint HR911105A (Rj45 Connector with Filter & LED)
pins: 1 Td+, 2 Td-, 3 Rd+, 4 Tdc, 5 Rdc, 6 Rd-, 7 NC, 8 CHS_GND, 9 Led_GA, 10 Led_GK, 11 Led_YK, 12 Led_YA
text: 1TX+; 2TX-; 3RX+ /; 6RX- /

## HT7550
designator U?
5 volt 100mA Low Power LDO Voltage Regulator; Note: Heatsink surface is connected to Pin 2; DatasheetVersion: 1997; PackageVersion: 1997; PackageReference: 221A-06; Publisher: Altium Limited; PackageDescription: TO, Thru-Hole, Vertical, Heatsink Mounted; 3 In-Line Leads; Pitch 2.54 mm; Code_JEDEC: TO-262-AA; ComponentLink1Description: Manufacturer Link; ComponentLink1URL: http://www.onsemi.com/site/products/taxonomy/0,4438,503,00.html; ComponentLink2Description: Datasheet; ComponentLink2URL: http://www.onsemi.com/pub/Collateral/MC7800-D.PDF
footprint SOT89M (SOT89, 3-Leads, Body 4.5x2.4 mm, Pitch 1.5mm, Lead Span 4.1mm, IPC Low Density)
pins: 1 GND (power), 2 IN (power), 3 OUT (power)

## HTG12848A
designator H?
footprint HTG12848A (Glcd HTG12848A)
pins: 1 +3.3v, 2 LEDC, 3 Gnd, 4 SI, 5 SCLK, 6 A0, 7 ~{RST}, 8 ~{CS}

## HX711
designator U1
24-Bit 2channal Analog-to-Digital Converter (ADC) for Weigh Scales
footprint SO16
pins: 1 VSUP (power), 2 BASE (power), 3 AVDD, 4 VFB (power), 5 AGND, 6 VBG, 7 INNA, 8 INPA (power), 9 INNB, 10 INPB (power), 11 PD_SCK (power), 12 DOUT (power), 13 XO (power), 14 XI (power), 15 RATE (power), 16 DVDD (power)

## HX712
designator U1
24-Bit Analog-to-Digital Converter (ADC) with Load-cell Power Supply
footprint SO14_M (SOIC, 14-Leads, Body 8.7x3.9mm, Pitch 1.27mm, IPC Low Density)
pins: 1 AVDD (power), 2 VOUT (power), 3 REFP, 4 AGND (power), 5 REFN, 6 INN, 7 INP, 8 DGND (power), 9 PD_SCK, 10 DOUT (power), 11 XO (power), 12 XI (power), 13 DVDD (power), 14 BAT (power)

## HY27UF084G2M
designator U?
4Gbit (512Mx8bit)NAND Flash
footprint TSOP48 (Shrink Small Outline, Plastic, Thin; 48 Leads; Body Width 18.4 mm; Pitch 0.5 mm)
pins: 7 R/~{B} (out), 8 ~{RE} (in), 9 ~{CE} (in), 12 Vcc, 13 Vss, 16 CLE (in), 17 ALE (in), 18 ~{W}~{E} (in), 19 ~{W}~{P} (in), 29 I/O0 (io), 30 I/O1 (io), 31 I/O2 (io), 32 I/O3 (io), 36 Vss, 37 Vcc, 41 I/O4 (io), 42 I/O5 (io), 43 I/O6 (io), 44 I/O7 (io)
text: 512M x 8bit

## Inductor
designator L?, comment 10uH
Inductor; Code_IEC: 1005; Published: 8-Jun-2000; LatestRevisionDate: 17-Jul-2002; LatestRevisionNote: Re-released for DXP Platform.; PackageReference: 0402-A; Publisher: Altium Limited; Code_JEITA: 0402; Value: 10uH
footprint 0805
footprint 0805 - big
footprint 0603
pins: 1, 2

## Inductor_330
designator L?, comment 330uH 3A
Inductor; Code_IEC: 1005; Published: 8-Jun-2000; LatestRevisionDate: 17-Jul-2002; LatestRevisionNote: Re-released for DXP Platform.; PackageReference: 0402-A; Publisher: Altium Limited; Code_JEITA: 0402; Value: 330uH
footprint CAPPR5-5X5 (Capacitor, Electrolytic, Radial; Body 5 x 5 mm (Dia.xH typ); Pin Spacing 5 mm (typ))
footprint SELF SMD/12x12x8mm
pins: 1, 2

## Inductor_B
designator L1, comment 330 uH 3A
Inductor; Code_IEC: 1005; Published: 8-Jun-2000; LatestRevisionDate: 17-Jul-2002; LatestRevisionNote: Re-released for DXP Platform.; PackageReference: 0402-A; Publisher: Altium Limited; Code_JEITA: 0402
pins: 1, 2, 3, 4

## IPS6011
designator U?
INTELLIGENT POWER HIGH SIDE SWITCH
footprint D2-PAK (D2-PAK; 5 Leads (1 Cropped); Body 15.3 (inc. leads) x 10.4 mm (LxW max))
pins: 1 Gnd, 2 In, 3 Vcc, 4 Dg, 5 Out

## IR2104S
designator U?
HALF-BRIDGE DRIVER
footprint so8
pins: 1 VCC (power), 2 IN (in), 3 ~{SD} (power), 4 COM, 5 LO, 6 VS (power), 7 HO, 8 VB (power)

## IRF640
designator Q?
HEXFET N-Channel Power MOSFET; Note: Pin 2 is electrically connected to pin 4.; Published: 8-Jun-2000; LatestRevisionDate: 17-Jul-2002; LatestRevisionNote: Re-released for DXP Platform.; DatasheetVersion: PD-9.374G; PackageVersion: Feb-1997; PackageReference: TO-220AB; Publisher: Altium Limited; PackageDescription: TO, Thru-Hole, Vertical, Heatsink Mounted; 3 In-Line Leads; Pitch 2.54 mm; ComponentLink1Description: Manufacturer Link; ComponentLink1URL: http://www.irf.com/; ComponentLink2Description: Datasheet; ComponentLink2URL: http://www.irf.com/product-info/datasheets/data/irf640.pdf
simulation model IRF640 (SUBCKT)
footprint TO220
pins: 1 G, 2 D, 3 S

## IRF2807
designator Q?
HEXFET Power MOSFET 82A VDSS= 75V; Note: Pin 2 is electrically connected to pin 4.; Sim Note: Thermal Model provided is not called on from main Subckt.; Published: 8-Jun-2000; LatestRevisionDate: 17-Jul-2002; LatestRevisionNote: Re-released for DXP Platform.; DatasheetVersion: May-1998; PackageVersion: Feb-1997; PackageReference: TO-220AB; Publisher: Altium Limited; PackageDescription: TO, Thru-Hole, Vertical, Heatsink Mounted; 3 In-Line Leads; Pitch 2.54 mm; ComponentLink1Description: Manufacturer Link; ComponentLink1URL: http://www.irf.com/; ComponentLink2Description: Datasheet; ComponentLink2URL: http://www.irf.com/product-info/datasheets/data/irf2807.pdf
footprint TO220
simulation model IRF2807 (SUBCKT)
pins: 1 G, 2 D, 3 S

## IRF9540
designator Q?
19A-Pchannel Mosfet
footprint TO220
pins: 1 G, 2 D, 3 S

## IRLML2402
designator Q?, comment IRLML2502
HEXFET Power MOSFET; Published: 8-Jun-2000; LatestRevisionDate: 20-Nov-2009; LatestRevisionNote: IPC-7351 Footprint Added.; DatasheetVersion: Aug-1997; PackageReference: SOT-23; Publisher: Altium Limited; PackageDescription: 3-Pin SOT-23 Package 0.95 mm Pitch, 2.3 mm Lead Span; ComponentLink1Description: Manufacturer Link; ComponentLink1URL: http://www.irf.com/; ComponentLink2Description: Datasheet; ComponentLink2URL: http://www.irf.com/product-info/datasheets/data/irlml2402.pdf
footprint SOT23
footprint SOT23_
pins: 1 G, 2 S, 3 D

## IRLML6401
designator Q?, comment IRLML6402
HEXFET Power MOSFET; Published: 17-Sep-2003; DatasheetVersion: 2-Jul-2001; PackageVersion: Jul-2001; PackageReference: Micro3; Publisher: Altium Limited; PackageDescription: 3-Pin SOT-23 Package 0.95 mm Pitch, 2.3 mm Lead Span; ComponentLink1Description: Manufacturer Link; ComponentLink1URL: http://www.irf.com/; ComponentLink2Description: Datasheet; ComponentLink2URL: http://www.irf.com/product-info/datasheets/data/IRLML6401.pdf
footprint SOT23
footprint SOT23_
pins: 1 G, 2 S, 3 D

## IRLML6402
designator Q?
P-channal Mosfet 3.3A 1.3W; link: http://javanelec.com/productsDetails.aspx?id=2310; price: 2830 Rial
footprint SOT23
pins: 1 G, 2 S, 3 D

## IS61LV25616A
designator U?
256K x 16 HIGH SPEED ASYNCHRONOUS  CMOS STATIC RAM WITH 3.3V SUPPLY
pins: 1 A0, 2 A1, 3 A2, 4 A3, 5 A4, 6 ~{CE}, 7 I/O0, 8 I/O1, 9 I/O2, 10 I/O3, 11 VCC, 12 GND, 13 I/O4, 14 I/O5, 15 I/O6, 16 I/O7, 17 ~{WE}, 18 A5, 19 A6, 20 A7, 21 A8, 22 A9, 23 A10, 24 A11, 25 A12, 26 A13, 27 A14, 29 I/O8, 30 I/O9, 31 I/O10, 32 I/O11, 33 VCC, 34 GND, 35 I/O12, 36 I/O13, 37 I/O14, 38 I/O15, 39 ~{LB}, 40 ~{UB}, 41 ~{OE}, 42 A15, 43 A16, 44 A17

## IS61WV51216BLL
designator U?
16-bit SRAM
pins: A1 ~{LB}, A2 ~{OE}, A3 A0, A4 A1, A5 A2, B1 I/O8, B2 ~{UB}, B3 A3, B4 A4, B5 ~{CE}, B6 I/O0, C1 I/O9, C2 I/O10, C3 A5, C4 A6, C5 I/O1, C6 I/O2, D1 VSS, D2 I/O11, D3 A17, D4 A7, D5 I/O3, D6 VCC, E1 VCC, E2 I/O12, E4 A16, E5 I/O4, E6 VSS, F1 I/O14, F2 I/O13, F3 A14, F4 A15, F5 I/O5, F6 I/O6, G1 I/O15, G3 A12, G4 A13, G5 ~{WE}, G6 I/O7, H1 A18, H2 A8, H3 A9, H4 A10, H5 A11

## IS61WV102416BLL-10MLI
designator U?
footprint miniBAG48(9x11) (Footprint not found)
footprint BGA48_0R75_9X11 (Footprint not found)
pins: A1 ~{BLE}, A2 ~{OE}, A3 A0, A4 A1, A5 A2, A6 CE2, B1 I/O8, B2 ~{BHE}, B3 A3, B4 A4, B5 ~{CE}, B6 I/O0, C1 I/O9, C2 I/O10, C3 A5, C4 A6, C5 I/O1, C6 I/O2, D1 VSS, D2 I/O11, D3 A17, D4 A7, D5 I/O3, D6 VCC, E1 VCC, E2 I/O12, E4 A16, E5 I/O4, E6 VSS, F1 I/O14, F2 I/O13, F3 A14, F4 A15, F5 I/O5, F6 I/O6, G1 I/O15, G2 A19, G3 A12, G4 A13, G5 ~{WE}, G6 I/O7, H1 A18, H2 A8, H3 A9, H4 A10, H5 A11, H6 A20

## Jack
designator J?
footprint Jack
pins: 1 T "Tip/Left Channel/(+)", 2 R "Ring/Right Channel/(-)", 3 S (power) "Sleeve (Ground)"

## Jack3.5 mm
designator J?
pins: 1 T (in) "Tip/Left Channel/(+)", 3 R (in) "Ring/Right Channel/(-)", 5 S (power) "Sleeve (Ground)"

## Jm
designator J4, comment Jumper  (value not drawn)
footprint Jumper
pins: 1, 2, 3

## Jm_2
designator J?, comment Jumper  (value not drawn)
footprint Jumper - 2
pins: 1, 2

## K9F1G08U0C-P
designator U?
128M x 8 Bit NAND Flash Memory (samsung)
footprint TSOP48 (Shrink Small Outline, Plastic, Thin; 48 Leads; Body Width 18.4 mm; Pitch 0.5 mm)
pins: 7 R/~{B} (out), 8 ~{RE} (in), 9 ~{CE} (in), 12 Vcc, 13 Vss, 16 CLE (in), 17 ALE (in), 18 ~{W}~{E} (in), 19 ~{W}~{P} (in), 29 I/O0 (io), 30 I/O1 (io), 31 I/O2 (io), 32 I/O3 (io), 36 Vss, 37 Vcc, 41 I/O4 (io), 42 I/O5 (io), 43 I/O6 (io), 44 I/O7 (io)
text: 128M x 8 Bit

## Key_with_led
designator K?, comment Key with Led
footprint Key_with_led (Key with led)
footprint Connector1x4 (Connector; Header; 4 Position)
pins: 1 Com, 2 NO, 3 Led+, 4 Led-

## L78L05ACUTR
designator U?
Positive Voltage Regulators , Fixed ,Output Voltage : 5V , Output Current : 100mA;Input Voltage :35V
footprint SOT89M (SOT89, 3-Leads, Body 4.5x2.4 mm, Pitch 1.5mm, Lead Span 4.1mm, IPC Low Density)
pins: 1 OUT (power), 2 GND (power), 3 IN (power)

## L293D
designator U?
footprint DIP16
pins: 1 EN-1, 2 IN-1, 3 OUT-1, 4 GND, 5 GND, 6 OUT2, 7 IN2, 8 VS, 9 EN-2, 10 IN-3, 11 OUT-3, 12 GND, 13 GND, 14 OUT-4, 15 IN-4, 16 VSS

## L297
designator U?
footprint DIP20
pins: 1 SYNC, 2 GND, 3 HOME, 4 A, 5 INH1, 6 B, 7 C, 8 INH2, 9 D, 10 EN, 11 CONTROL, 12 VCC, 13 SENS2, 14 SENS1, 15 Vref, 16 OSC, 17 CW/CCW, 18 CLK, 19 HALF/FULL, 20 RST

## L298
designator U?
footprint L298
pins: 1 SENS A, 2 OUT 1, 3 OUT 2, 4 VDD, 5 IN1, 6 EN A, 7 IN2, 8 GND, 9 VCC, 10 IN3, 11 EN B, 12 IN4, 13 OUT 3, 14 OUT 4, 15 SENS B

## L4941BV
designator U?
Very low drop 1A regulator; Note: Heatsink surface is connected to Pin 2; DatasheetVersion: 1997; PackageVersion: 1997; PackageReference: 221A-06; Publisher: Altium Limited; PackageDescription: TO, Thru-Hole, Vertical, Heatsink Mounted; 3 In-Line Leads; Pitch 2.54 mm; Code_JEDEC: TO-262-AA; ComponentLink1Description: Manufacturer Link; ComponentLink1URL: http://www.onsemi.com/site/products/taxonomy/0,4438,503,00.html; ComponentLink2Description: Datasheet; ComponentLink2URL: http://www.onsemi.com/pub/Collateral/MC7800-D.PDF
footprint TO-220 (With Heatsink)
pins: 1 IN (power), 2 GND (power), 3 OUT (power)

## L4979
designator U?, comment L4979D
5 volt Regulator with Watchdog
footprint SO8
pins: 1 EN, 2 GND, 3 RES, 4 VCR, 5 VCW, 6 WI, 7 VO, 8 VS

## L7805CD2T
designator U?
Positive voltage regulators; Link: http://javanelec.com/productsDetails.aspx?id=2793
footprint -D2PACK
pins: 1 IN (power), 2 GND (power), 3 OUT (power)

## L9110
designator U?
800 mA Motor Driver; Link: http://www.digikey.com/product-detail/en/LB1836M-TLM-E/869-1218-2-ND/2504858
footprint SO8
pins: 1 OutA, 2 Vcc, 3 Vcc, 4 OutB, 5 GND, 6 InA, 7 InB, 8 GND

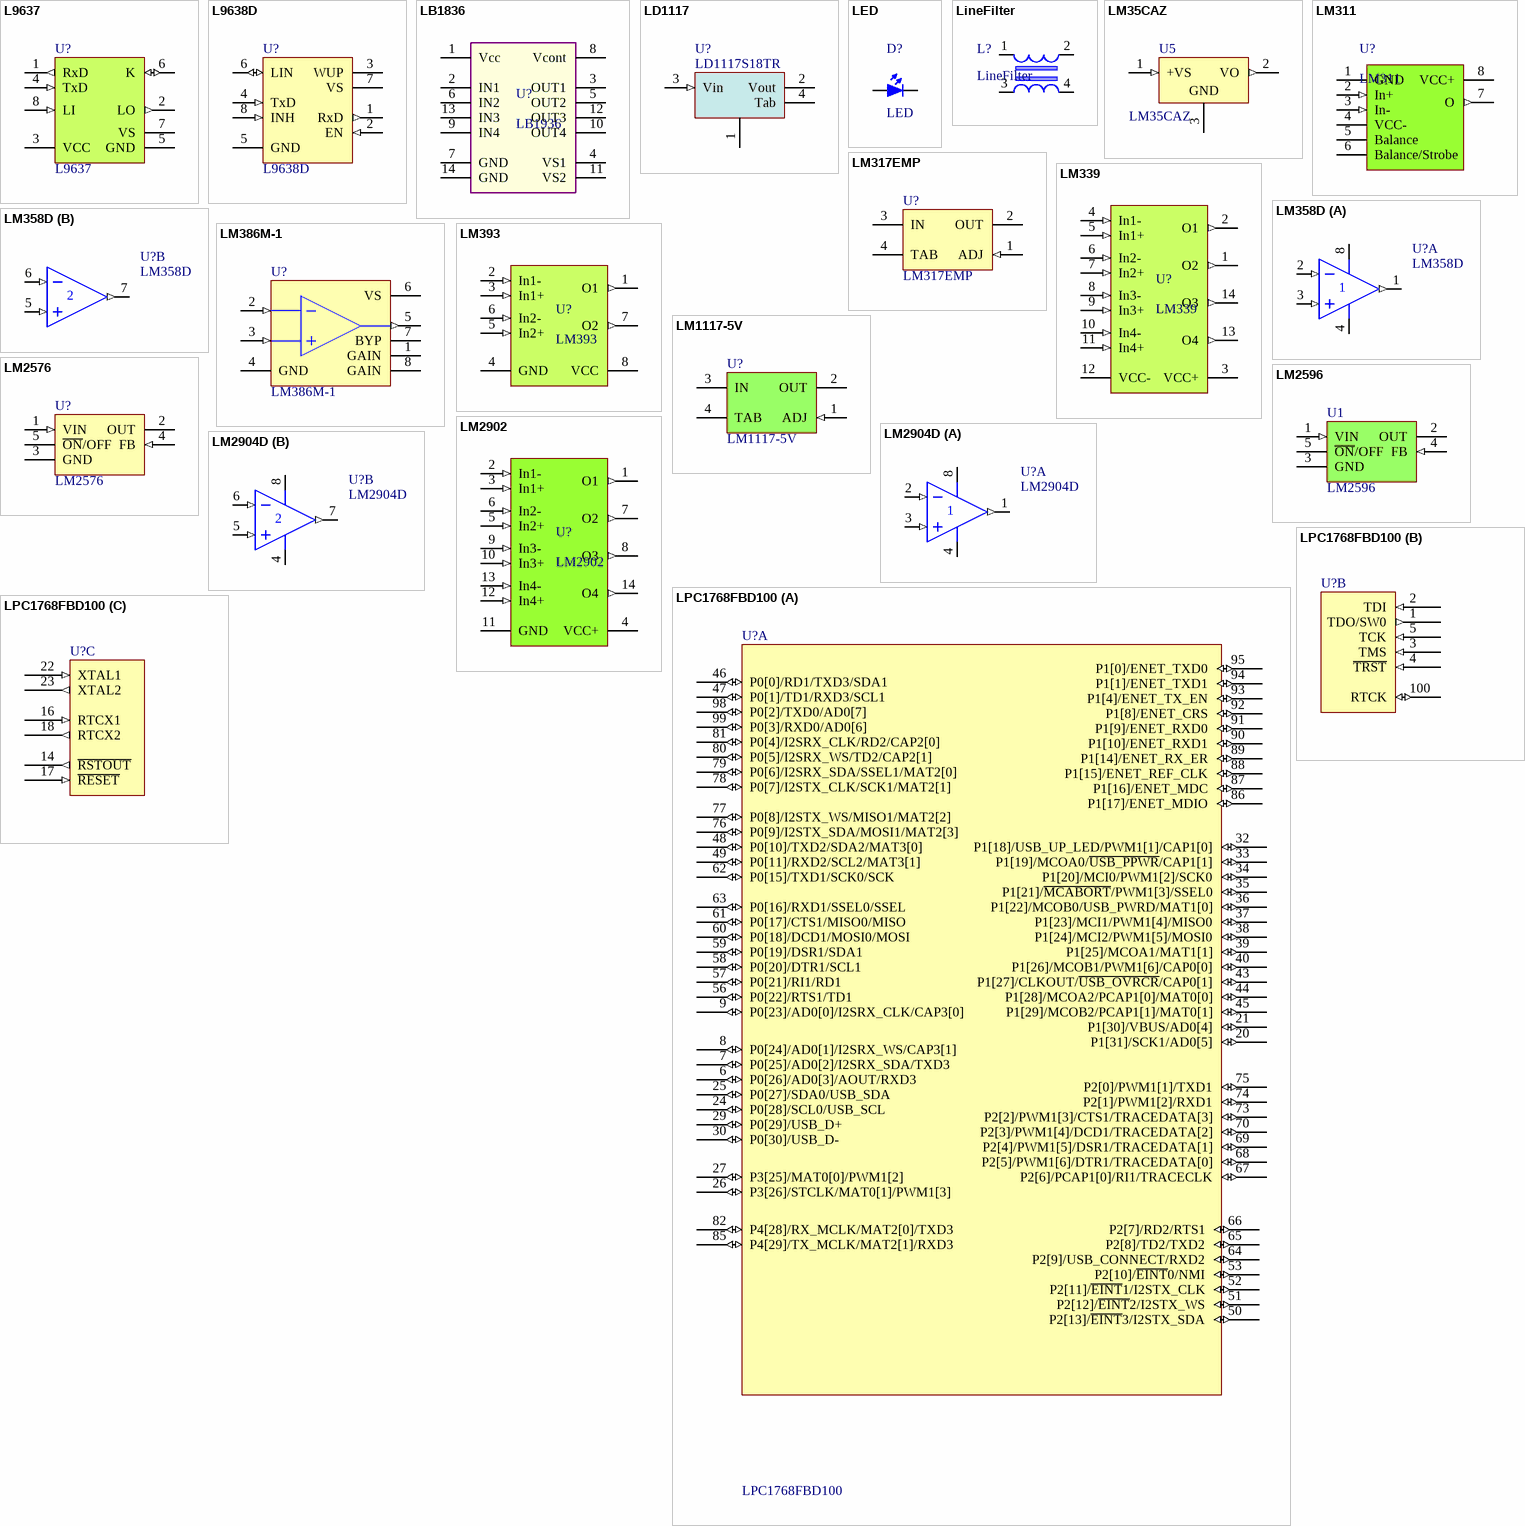
[diagram p9: symbols L9637 to LPC1768FBD100]

## L9637
designator U?
ISO 9141 Interface; Published: 24-Aug-2001; LatestRevisionDate: 13-Apr-2006; LatestRevisionNote: IPC-7351 Footprint Added.; DatasheetVersion: Dec-1998; PackageVersion: Dec-2002; PackageReference: SO8; Publisher: Altium Limited; PackageDescription: 8-Pin Small Outline Integrated Circuit 1.27 mm Pitch; Code_JEDEC: MS-012-AA; Code_IPC: SOIC127P600-8; ComponentLink1Description: Manufacturer Link; ComponentLink1URL: http://www.st.com/; ComponentLink2Description: Datasheet; ComponentLink2URL: http://www.st.com/stonline/products/literature/ds/1765/l9637.pdf
footprint SO8
pins: 1 RxD (out), 2 LO (out), 3 VCC (power), 4 TxD (in), 5 GND (power), 6 K (io), 7 VS (power), 8 LI (in)

## L9638D
designator U?
ISO 9141 Interface; Published: 24-Aug-2001; LatestRevisionDate: 13-Apr-2006; LatestRevisionNote: IPC-7351 Footprint Added.; DatasheetVersion: Dec-1998; PackageVersion: Dec-2002; PackageReference: SO8; Publisher: Altium Limited; PackageDescription: 8-Pin Small Outline Integrated Circuit 1.27 mm Pitch; Code_JEDEC: MS-012-AA; Code_IPC: SOIC127P600-8; ComponentLink1Description: Manufacturer Link; ComponentLink1URL: http://www.st.com/; ComponentLink2Description: Datasheet; ComponentLink2URL: http://www.st.com/stonline/products/literature/ds/1765/l9637.pdf
footprint SO8
pins: 1 RxD (out), 2 EN (in), 3 WUP (power), 4 TxD (in), 5 GND (power), 6 LIN (io), 7 VS (power), 8 INH (in)

## LB1836
designator U?, comment LB1936
Low-Saturation Bidirectional Motor Driver for Low-Voltage Drive; Link: http://www.digikey.com/product-detail/en/LB1836M-TLM-E/869-1218-2-ND/2504858
footprint SO14_Big
pins: 1 Vcc, 2 IN1, 3 OUT1, 4 VS1, 5 OUT2, 6 IN2, 7 GND, 8 Vcont, 9 IN4, 10 OUT4, 11 VS2, 12 OUT3, 13 IN3, 14 GND

## LD1117
designator U?, comment LD1117S18TR
footprint SOT-223
pins: 1, 2 Vout (power), 3 Vin (in), 4 Tab (power)
2 alternate drawings of the same symbol

## LED
designator D?
Published: 8-Jun-2000; LatestRevisionDate: 08-Jul-2005; LatestRevisionNote: Mech Layer 1 removed.; PackageReference: LED-0; Publisher: Altium Limited
footprint 0805
footprint Small Led
footprint 0603 - LED
footprint 0805 - big
footprint 0805 LED
footprint LED
footprint 0805_M_Led
footprint 1206 LED
footprint 1206 LEDBiG
pins: 1 A, 2 K

## LineFilter
designator L?
Inductor
pins: 1, 2, 3, 4

## LM35CAZ
designator U5
Precision Centigrade Temperature Sensor; Manufacturer: National Semiconductor; CompType: Temp Sensor IC; PackageTopMarking: NSXYTT*LM35*CAZ; PowerWise: N; Published: 4-Dec-2008; LatestRevisionDate: 15-Jul-2009; LatestRevisionNote: Sch pins 1 & 3 reversed.; DatasheetVersion: Nov-2000; PackageVersion: revG, Sep-2000; PackageReference: Z03A; Publisher: Altium Limited; PackageDescription: TO-92, Molded, 3 Lead; PartNumber: LM35CAZ; RoHS: O; PinCount: 3; DigiKeyPartNumber: LM35CAZ-ND; Code_JEDEC: TO-226-AA; ComponentLink1Description: LM35 Datasheet; ComponentLink1URL: http://www.national.com/ds/LM/LM35.pdf; ComponentLink2Description: LM35 Web Page; ComponentLink2URL: http://www.national.com/pf/LM/LM35.html; ComponentLink3Description: Z03A Package Page; ComponentLink3URL: http://www.national.com/packaging/folders/z03a.html
footprint Z03A (TO, Flat Index; 3 In-Line, Axial Leads; Body Dia. 5mm; Leads 0.55 x 0.50 mm (max))
pins: 1 +VS (in), 2 VO (out), 3 GND (power)

## LM311
designator U?
Voltage comparator with strobe
footprint SO8
pins: 1 GND (power), 2 In+ (in), 3 In- (in), 4 VCC-, 5 Balance, 6 Balance/Strobe, 7 O (out), 8 VCC+ (power)

## LM317EMP
designator U?
3-Terminal Adjustable Regulator; Manufacturer: National Semiconductor; CompType: LDO IC; PackageTopMarking: XYTT*N01A; PowerWise: N; Published: 4-Dec-2008; DatasheetVersion: Apr-2007; PackageVersion: revB, Apr-2003; PackageReference: MP04A; Publisher: Altium Limited; PackageDescription: Molded SOT-223, 6.50 x 3.56 x 1.6mm Body, 4 Lead, 2.3mm Pitch; PartNumber: LM317EMP; RoHS: O; PinCount: 4; DigiKeyPartNumber: LM317EMPCT-ND; Code_JEDEC: TO-261-AA; Code_IPC: SOT223-4; ComponentLink1Description: LM317 Datasheet; ComponentLink1URL: http://www.national.com/ds/LM/LM317.pdf; ComponentLink2Description: LM317 Web Page; ComponentLink2URL: http://www.national.com/pf/LM/LM317.html; ComponentLink3Description: MP04A Package Page; ComponentLink3URL: http://www.national.com/packaging/folders/mp04a.html
footprint MP04A_N
pins: 1 ADJ (in), 2 OUT (power), 3 IN (power), 4 TAB (power)

## LM339
designator U?
Low-power quad voltage comparators
footprint DIP14 (DIP; 14 Leads; Row Spacing 7.62 mm; Pitch 2.54 mm)
footprint SO14_M (SOIC, 14-Leads, Body 8.7x3.9mm, Pitch 1.27mm, IPC Low Density)
pins: 1 O2 (out), 2 O1 (out), 3 VCC+ (power), 4 In1- (in), 5 In1+ (in), 6 In2- (in), 7 In2+ (in), 8 In3- (in), 9 In3+ (in), 10 In4- (in), 11 In4+ (in), 12 VCC- (power), 13 O4 (out), 14 O3 (out)

## LM358D
designator U?
Dual Low-Power Operational Amplifier; Published: 17-Jul-2002; LatestRevisionDate: 13-Apr-2006; LatestRevisionNote: IPC-7351 Footprint Added.; DatasheetVersion: 1988; PackageReference: 751-02; Publisher: Altium Limited; PackageDescription: 8-Pin Small Outline Integrated Circuit 1.27 mm Pitch; Code_JEDEC: MS-012-AA; Code_IPC: SOIC127P600-8; ComponentLink1Description: Manufacturer Link; ComponentLink1URL: http://www.onsemi.com/site/products/parametrics/0,4446,251,00.html; ComponentLink2Description: Datasheet; ComponentLink2URL: http://www.onsemi.com/pub/Collateral/LM358-D.PDF
footprint SO8
part A pins: 1 OUT (out), 2 IN- (in), 3 IN+ (in), 4 V- (power), 8 V+ (power)
part B pins: 5 IN+ (in), 6 IN- (in), 7 OUT (out)

## LM386M-1
designator U?
Low-Voltage Audio Power Amplifier; Published: 15-Apr-2002; LatestRevisionDate: 13-Apr-2006; LatestRevisionNote: IPC-7351 Footprint Added.; DatasheetVersion: Sep-1997; PackageVersion: Sep-1997; PackageReference: M08A; Publisher: Altium Limited; PackageDescription: 8-Pin Small Outline Integrated Circuit 1.27 mm Pitch; Code_JEDEC: MS-012-AA; Code_IPC: SOIC127P600-8; ComponentLink1Description: Manufacturer Link; ComponentLink1URL: http://www.national.com/; ComponentLink2Description: Datasheet; ComponentLink2URL: http://www.national.com/ds.cgi/LM/LM386.pdf; ComponentLink3Description: URL Link1; ComponentLink3URL: http://www.national.com/pf/LM/LM386.html
footprint SO8
pins: 1 GAIN, 2 IN- (in), 3 IN+ (in), 4 GND (power), 5 OUT (out), 6 VS (power), 7 BYP, 8 GAIN

## LM393
designator U?
Low Offset Voltage   Dual Comparators
footprint SO8
pins: 1 O1 (out), 2 In1- (in), 3 In1+ (in), 4 GND (power), 5 In2+ (in), 6 In2- (in), 7 O2 (out), 8 VCC (power)

## LM1117-5V
designator U?
5 Volt Regulator
footprint SOT223
pins: 1 ADJ (in), 2 OUT (power), 3 IN (power), 4 TAB (power)

## LM2576
designator U?
Easy Switcher 5.0A Step-Down Voltage Regulator; Published: 15-Apr-2002; DatasheetVersion: Jul-1999; PackageVersion: Jul-1999; PackageReference: 314D-03; Publisher: Altium Limited; PackageDescription: TO, Thru-Hole, Vertical, Heatsink Mounted; 5 In-Line Leads; Pitch 1.70 mm; Code_JEDEC: TS-001-AA; ComponentLink1Description: Manufacturer Link; ComponentLink1URL: http://www.onsemi.com/site/products/taxonomy/0,4438,503,00.html; ComponentLink2Description: Datasheet; ComponentLink2URL: http://www.onsemi.com/pub/Collateral/LM2576-D.PDF
footprint TS5B; pin to pad 3>3+6
footprint T05A (TO, Thru-Hole, Vertical, Heatsink Mounted; 5 In-Line Leads; Pitch 1.70 mm)
footprint T05A -Heat Sink (TO, Thru-Hole, Vertical, Heatsink Mounted; 5 In-Line Leads; Pitch 1.70 mm)
pins: 1 VIN (in), 2 OUT (oe), 3 GND (power), 4 FB (in), 5 ~{ON}/OFF

## LM2596
designator U1
3.0 A, Step-Down Switching  Regulator
footprint TS5B; pin to pad 3>3+6
footprint T05A (TO, Thru-Hole, Vertical, Heatsink Mounted; 5 In-Line Leads; Pitch 1.70 mm)
footprint T05A -Heat Sink (TO, Thru-Hole, Vertical, Heatsink Mounted; 5 In-Line Leads; Pitch 1.70 mm)
pins: 1 VIN (in), 2 OUT (oe), 3 GND (power), 4 FB (in), 5 ~{ON}/OFF

## LM2902
designator U?
Quad Operational Amplifier
footprint DIP14 (DIP; 14 Leads; Row Spacing 7.62 mm; Pitch 2.54 mm)
footprint SO14_M (SOIC, 14-Leads, Body 8.7x3.9mm, Pitch 1.27mm, IPC Low Density)
pins: 1 O1 (out), 2 In1- (in), 3 In1+ (in), 4 VCC+ (power), 5 In2+ (in), 6 In2- (in), 7 O2 (out), 8 O3 (out), 9 In3- (in), 10 In3+ (in), 11 GND (power), 12 In4+ (in), 13 In4- (in), 14 O4 (out)

## LM2904D
designator U?
Dual Low-Power Operational Amplifier; Published: 17-Jul-2002; LatestRevisionDate: 13-Apr-2006; LatestRevisionNote: IPC-7351 Footprint Added.; DatasheetVersion: 1988; PackageReference: 751-02; Publisher: Altium Limited; PackageDescription: 8-Pin Small Outline Integrated Circuit 1.27 mm Pitch; Code_JEDEC: MS-012-AA; Code_IPC: SOIC127P600-8; ComponentLink1Description: Manufacturer Link; ComponentLink1URL: http://www.onsemi.com/site/products/parametrics/0,4446,251,00.html; ComponentLink2Description: Datasheet; ComponentLink2URL: http://www.onsemi.com/pub/Collateral/LM358-D.PDF
footprint SO8
pins on every part: 4 V- (power), 8 V+ (power)
part A pins: 1 OUT (out), 2 IN- (in), 3 IN+ (in)
part B pins: 5 IN+ (in), 6 IN- (in), 7 OUT (out)

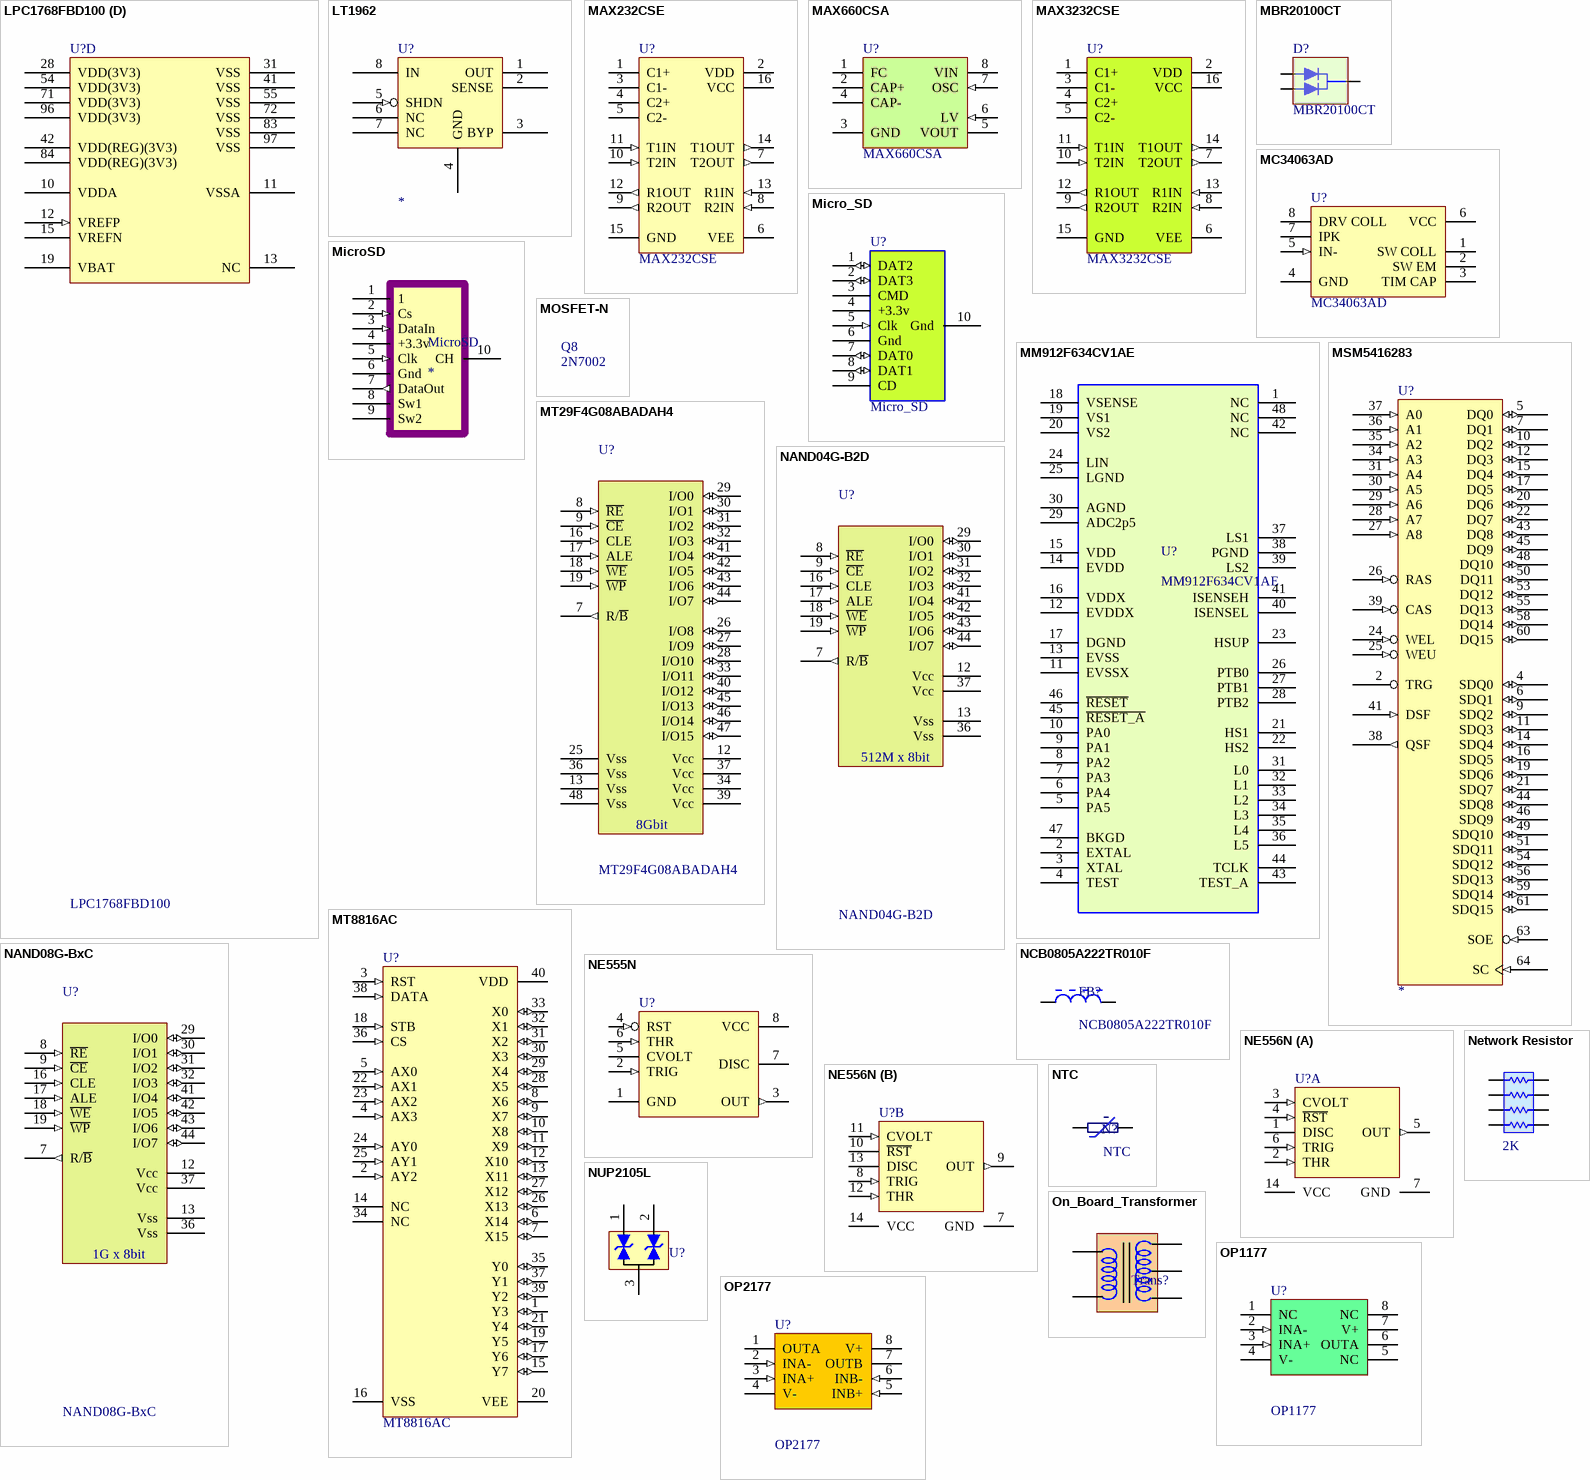
[diagram p10: symbols LPC1768FBD100 to OP2177]

## LPC1768FBD100
designator U?
32-bit ARM Cortex-M3 microcontroller; up to 512 kB flash and 64 kB SRAM with Ethernet, USB 2.0 Host/Device/OTG, CAN; Code_IEC: 136E20; Published: 17-Aug-2007; DatasheetVersion: rev.01, Jan-2007; PackageVersion: Feb-2003; PackageReference: SOT407-1; Publisher: Altium Limited; PackageDescription: 100-Pin Plastic Low Profile Quad Flat Pack, LQFP100; Code_JEDEC: MS-026; ComponentLink1Description: Manufacturer Link; ComponentLink1URL: http://www.nxp.com/; ComponentLink2Description: Datasheet; ComponentLink2URL: http://www.standardics.nxp.com/products/lpc2000/datasheet/lpc2364.lpc2366.lpc2368.pdf
footprint LQFP100_M (Thin QFP, 100-Leads, Body 14x14mm, Pitch 0.5mm, IPC Low Density)
part A pins: 6 P0[26]/AD0[3]/AOUT/RXD3 (io), 7 P0[25]/AD0[2]/I2SRX_SDA/TXD3 (io), 8 P0[24]/AD0[1]/I2SRX_WS/CAP3[1] (io), 9 P0[23]/AD0[0]/I2SRX_CLK/CAP3[0] (io), 20 P1[31]/SCK1/AD0[5] (io), 21 P1[30]/VBUS/AD0[4] (io), 24 P0[28]/SCL0/USB_SCL (io), 25 P0[27]/SDA0/USB_SDA (io), 26 P3[26]/STCLK/MAT0[1]/PWM1[3] (io), 27 P3[25]/MAT0[0]/PWM1[2] (io), 29 P0[29]/USB_D+ (io), 30 P0[30]/USB_D- (io), 32 P1[18]/USB_UP_LED/PWM1[1]/CAP1[0] (io), 33 P1[19]/MCOA0/~{USB_PPWR}/CAP1[1] (io), 34 P1[20]/MCI0/PWM1[2]/SCK0 (io), 35 P1[21]/~{MCABORT}/PWM1[3]/SSEL0 (io), 36 P1[22]/MCOB0/USB_PWRD/MAT1[0] (io), 37 P1[23]/MCI1/PWM1[4]/MISO0 (io), 38 P1[24]/MCI2/PWM1[5]/MOSI0 (io), 39 P1[25]/MCOA1/MAT1[1] (io), 40 P1[26]/MCOB1/PWM1[6]/CAP0[0] (io), 43 P1[27]/CLKOUT/~{USB_OVRCR}/CAP0[1] (io), 44 P1[28]/MCOA2/PCAP1[0]/MAT0[0] (io), 45 P1[29]/MCOB2/PCAP1[1]/MAT0[1] (io), 46 P0[0]/RD1/TXD3/SDA1 (io), 47 P0[1]/TD1/RXD3/SCL1 (io), 48 P0[10]/TXD2/SDA2/MAT3[0] (io), 49 P0[11]/RXD2/SCL2/MAT3[1] (io), 50 P2[13]/~{EINT}3/I2STX_SDA (io), 51 P2[12]/~{EINT}2/I2STX_WS (io), 52 P2[11]/~{EINT}1/I2STX_CLK (io), 53 P2[10]/~{EINT}0/NMI (io), 56 P0[22]/RTS1/TD1 (io), 57 P0[21]/RI1/RD1 (io), 58 P0[20]/DTR1/SCL1 (io), 59 P0[19]/DSR1/SDA1 (io), 60 P0[18]/DCD1/MOSI0/MOSI (io), 61 P0[17]/CTS1/MISO0/MISO (io), 62 P0[15]/TXD1/SCK0/SCK (io), 63 P0[16]/RXD1/SSEL0/SSEL (io), 64 P2[9]/USB_CONNECT/RXD2 (io), 65 P2[8]/TD2/TXD2 (io), 66 P2[7]/RD2/RTS1 (io), 67 P2[6]/PCAP1[0]/RI1/TRACECLK (io), 68 P2[5]/PWM1[6]/DTR1/TRACEDATA[0] (io), 69 P2[4]/PWM1[5]/DSR1/TRACEDATA[1] (io), 70 P2[3]/PWM1[4]/DCD1/TRACEDATA[2] (io), 73 P2[2]/PWM1[3]/CTS1/TRACEDATA[3] (io), 74 P2[1]/PWM1[2]/RXD1 (io), 75 P2[0]/PWM1[1]/TXD1 (io), 76 P0[9]/I2STX_SDA/MOSI1/MAT2[3] (io), 77 P0[8]/I2STX_WS/MISO1/MAT2[2] (io), 78 P0[7]/I2STX_CLK/SCK1/MAT2[1] (io), 79 P0[6]/I2SRX_SDA/SSEL1/MAT2[0] (io), 80 P0[5]/I2SRX_WS/TD2/CAP2[1] (io), 81 P0[4]/I2SRX_CLK/RD2/CAP2[0] (io), 82 P4[28]/RX_MCLK/MAT2[0]/TXD3 (io), 85 P4[29]/TX_MCLK/MAT2[1]/RXD3 (io), 86 P1[17]/ENET_MDIO (io), 87 P1[16]/ENET_MDC (io), 88 P1[15]/ENET_REF_CLK (io), 89 P1[14]/ENET_RX_ER (io), 90 P1[10]/ENET_RXD1 (io), 91 P1[9]/ENET_RXD0 (io), 92 P1[8]/ENET_CRS (io), 93 P1[4]/ENET_TX_EN (io), 94 P1[1]/ENET_TXD1 (io), 95 P1[0]/ENET_TXD0 (io), 98 P0[2]/TXD0/AD0[7] (io), 99 P0[3]/RXD0/AD0[6] (io)
part B pins: 1 TDO/SW0 (out), 2 TDI (in), 3 TMS (in), 4 ~{TRST} (in), 5 TCK (in), 100 RTCK (io)
part C pins: 14 ~{RSTOUT} (out), 16 RTCX1 (in), 17 ~{RESET} (in), 18 RTCX2 (out), 22 XTAL1 (in), 23 XTAL2 (out)
part D pins: 10 VDDA (power), 11 VSSA (power), 12 VREFP (in), 13 NC (power), 15 VREFN (power), 19 VBAT (power), 28 VDD(3V3) (power), 31 VSS (power), 41 VSS (power), 42 VDD(REG)(3V3) (power), 54 VDD(3V3) (power), 55 VSS (power), 71 VDD(3V3) (power), 72 VSS (power), 83 VSS (power), 84 VDD(REG)(3V3) (power), 96 VDD(3V3) (power), 97 VSS (power)

## LT1962
designator U?
300 mA LDO Regulator
footprint MINISO-8
pins: 1 OUT, 2 SENSE, 3 BYP, 4 GND, 5 SHDN (in), 6 NC, 7 NC, 8 IN

## MAX232CSE
designator U?
+5V Powered, Multi-Channel RS-232 Driver/Receiver; Published: 16-Jan-2001; LatestRevisionDate: 13-Apr-2006; LatestRevisionNote: IPC-7351 Footprint Added.; PackageReference: NSO16; Publisher: Altium Limited; PackageDescription: 16-Pin Small Outline Integrated Circuit 1.27 mm Pitch; Code_JEDEC: MS-012-AC; Code_IPC: SOIC127P600-16; ComponentLink1Description: Manufacturer Link; ComponentLink1URL: http://www.maxim-ic.com/; ComponentLink2Description: Datasheet; ComponentLink2URL: http://pdfserv.maxim-ic.com/en/ds/MAX220-MAX249.pdf
footprint SO16
pins: 1 C1+, 2 VDD (power), 3 C1-, 4 C2+, 5 C2-, 6 VEE (power), 7 T2OUT (out), 8 R2IN (in), 9 R2OUT (out), 10 T2IN (in), 11 T1IN (in), 12 R1OUT (out), 13 R1IN (in), 14 T1OUT (out), 15 GND (power), 16 VCC (power)

## MAX660CSA
designator U?
CMOS Monolithic Voltage Converter; Published: 16-Jan-2001; LatestRevisionDate: 13-Apr-2006; LatestRevisionNote: IPC-7351 Footprint Added.; DatasheetVersion: Sep-1996; PackageReference: NSO8; Publisher: Altium Limited; PackageDescription: 8-Pin Small Outline Integrated Circuit 1.27 mm Pitch; Code_JEDEC: MS-012-AA; Code_IPC: SOIC127P600-8; ComponentLink1Description: Manufacturer Link; ComponentLink1URL: http://www.maxim-ic.com/; ComponentLink2Description: Datasheet; ComponentLink2URL: http://pdfserv.maxim-ic.com/en/ds/MAX660.pdf
footprint NSO8_N (SOIC, 8-Leads, Body 4.9x3.9mm, Pitch 1.27mm, IPC Medium Density)
footprint NSO8_L (SOIC, 8-Leads, Body 4.9x3.9mm, Pitch 1.27mm, IPC High Density)
footprint NSO8_M (SOIC, 8-Leads, Body 4.9x3.9mm, Pitch 1.27mm, IPC Low Density)
3D model NSO8 (8-Pin Small Outline Integrated Circuit 1.27 mm Pitch)
pins: 1 FC, 2 CAP+, 3 GND (power), 4 CAP-, 5 VOUT (power), 6 LV (in), 7 OSC (in), 8 VIN (power)

## MAX3232CSE
designator U?
3.0V to 5.5V, Low-Power, up to 1Mbps, True RS-232  Transceivers Using Four 0.1µF External Capacitors; Published: 16-Jan-2001; LatestRevisionDate: 13-Apr-2006; LatestRevisionNote: IPC-7351 Footprint Added.; PackageReference: NSO16; Publisher: Altium Limited; PackageDescription: 16-Pin Small Outline Integrated Circuit 1.27 mm Pitch; Code_JEDEC: MS-012-AC; Code_IPC: SOIC127P600-16; ComponentLink1Description: Manufacturer Link; ComponentLink1URL: http://www.maxim-ic.com/; ComponentLink2Description: Datasheet; ComponentLink2URL: http://pdfserv.maxim-ic.com/en/ds/MAX220-MAX249.pdf
footprint SO16
pins: 1 C1+, 2 VDD (power), 3 C1-, 4 C2+, 5 C2-, 6 VEE (power), 7 T2OUT (out), 8 R2IN (in), 9 R2OUT (out), 10 T2IN (in), 11 T1IN (in), 12 R1OUT (out), 13 R1IN (in), 14 T1OUT (out), 15 GND (power), 16 VCC (power)

## MBR20100CT
designator D?
SCHOTTKY BARRIER 20 AMPERES 80−100 VOLTS
footprint TO220
pins: 1 A1, 2 K, 3 A2

## MC34063AD
designator U?
DC-to-DC Converter Control Circuit; Published: 15-Apr-2002; LatestRevisionDate: 13-Apr-2006; LatestRevisionNote: IPC-7351 Footprint Added.; DatasheetVersion: 1996; PackageVersion: 1998; PackageReference: 751-05; Publisher: Altium Limited; PackageDescription: 8-Pin Small Outline Integrated Circuit 1.27 mm Pitch; Code_JEDEC: MS-012-AA; Code_IPC: SOIC127P600-8; ComponentLink1Description: Manufacturer Link; ComponentLink1URL: http://www.onsemi.com/site/products/taxonomy/0,4438,503,00.html; ComponentLink2Description: Datasheet; ComponentLink2URL: http://www.onsemi.com/pub/Collateral/MC34063A-D.PDF
footprint SO8
pins: 1 SW COLL, 2 SW EM, 3 TIM CAP, 4 GND (power), 5 IN- (in), 6 VCC (power), 7 IPK, 8 DRV COLL (oc)

## Micro_SD
designator U?
Micro sd in SD MODE 4pin
footprint MicroSd (MicroSd Conector)
footprint MicroSd Connector (MicroSd Conector)
pins: 1 DAT2 (io), 2 DAT3 (io), 3 CMD, 4 +3.3v, 5 Clk (in), 6 Gnd, 7 DAT0 (io), 8 DAT1 (io), 9 CD, 10 Gnd

## MicroSD
designator MicroSD
footprint MicroSd (MicroSd Conector)
footprint MicroSd Connector (MicroSd Conector)
pins: 1, 2 Cs (in), 3 DataIn (in), 4 +3.3v, 5 Clk (in), 6 Gnd, 7 DataOut (out), 8 Sw1, 9 Sw2, 10 CH

## MM912F634CV1AE
designator U?
Integrated S12 Based Relay  Driver with LIN
footprint TQFP48_M (48-Pin Thin Quad Flat Pack 0.5 mm Pitch, IPC Low Density)
pins: 1 NC, 2 EXTAL, 3 XTAL, 4 TEST, 5 PA5, 6 PA4, 7 PA3, 8 PA2, 9 PA1, 10 PA0, 11 EVSSX, 12 EVDDX, 13 EVSS, 14 EVDD, 15 VDD, 16 VDDX, 17 DGND, 18 VSENSE, 19 VS1, 20 VS2, 21 HS1, 22 HS2, 23 HSUP, 24 LIN, 25 LGND, 26 PTB0, 27 PTB1, 28 PTB2, 29 ADC2p5, 30 AGND, 31 L0, 32 L1, 33 L2, 34 L3, 35 L4, 36 L5, 37 LS1, 38 PGND, 39 LS2, 40 ISENSEL, 41 ISENSEH, 42 NC, 43 TEST_A, 44 TCLK, 45 ~{RESET_A}, 46 ~{RESET}, 47 BKGD, 48 NC

## MOSFET-N
designator Q8, comment 2N7002
N-Channel MOSFET; Published: 8-Jun-2000; LatestRevisionDate: 17-Jul-2002; LatestRevisionNote: Re-released for DXP Platform.; PackageVersion: 1995/1996; PackageReference: E3; Publisher: Altium Limited; PackageDescription: TO, Flat Index; 3 In-Line, Axial Leads; Body Dia. 4.6mm; Lead Dia. 0.5 mm (max)
footprint E3 (TO, Flat Index; 3 In-Line, Axial Leads; Body Dia. 4.6mm; Lead Dia. 0.5 mm (max))
simulation model NMOS (MOSFET-N)

## MSM5416283
designator U?
262,144-Word x 16-Bit Multiport DRAM
footprint SSOP64
pins: 1 VCC (power) hidden to VCC, 2 TRG, 3 GND (power) hidden to GND, 4 SDQ0 (io), 5 DQ0 (io), 6 SDQ1 (io), 7 DQ1 (io), 8 VCC (power) hidden to VCC, 9 SDQ2 (io), 10 DQ2 (io), 11 SDQ3 (io), 12 DQ3 (io), 13 GND (power) hidden to GND, 14 SDQ4 (io), 15 DQ4 (io), 16 SDQ5 (io), 17 DQ5 (io), 18 VCC (power) hidden to VCC, 19 SDQ6 (io), 20 DQ6 (io), 21 SDQ7 (io), 22 DQ7 (io), 23 GND (power) hidden to GND, 24 WEL (in), 25 WEU (in), 26 RAS (in), 27 A8 (in), 28 A7 (in), 29 A6 (in), 30 A5 (in), 31 A4 (in), 32 VCC (power) hidden to VCC, 33 GND (power) hidden to GND, 34 A3 (in), 35 A2 (in), 36 A1 (in), 37 A0 (in), 38 QSF (out), 39 CAS (in), 41 DSF (in), 42 GND (power) hidden to GND, 43 DQ8 (io), 44 SDQ8 (io), 45 DQ9 (io), 46 SDQ9 (io), 47 VCC (power) hidden to VCC, 48 DQ10 (io), 49 SDQ10 (io), 50 DQ11 (io), 51 SDQ11 (io), 52 GND (power) hidden to GND, 53 DQ12 (io), 54 SDQ12 (io), 55 DQ13 (io), 56 SDQ13 (io), 57 VCC (power) hidden to VCC, 58 DQ14 (io), 59 SDQ14 (io), 60 DQ15 (io), 61 SDQ15 (io), 62 GND (power) hidden to GND, 63 SOE (in), 64 SC (in)

## MT29F4G08ABADAH4
designator U?
4Gb, 8Gb x8, x16 NAND Flash Memory  Features
footprint TSOP48 (Shrink Small Outline, Plastic, Thin; 48 Leads; Body Width 18.4 mm; Pitch 0.5 mm)
pins: 7 R/~{B} (out), 8 ~{RE} (in), 9 ~{CE} (in), 12 Vcc, 13 Vss, 16 CLE (in), 17 ALE (in), 18 ~{W}~{E} (in), 19 ~{W}~{P} (in), 25 Vss, 26 I/O8 (io), 27 I/O9 (io), 28 I/O10 (io), 29 I/O0 (io), 30 I/O1 (io), 31 I/O2 (io), 32 I/O3 (io), 33 I/O11 (io), 34 Vcc, 36 Vss, 37 Vcc, 39 Vcc, 40 I/O12 (io), 41 I/O4 (io), 42 I/O5 (io), 43 I/O6 (io), 44 I/O7 (io), 45 I/O13 (io), 46 I/O14 (io), 47 I/O15 (io), 48 Vss
text: 8Gbit